# Altium integrated library Integrated_Library1.IntLib: 2483 symbols (part 2 of 13)
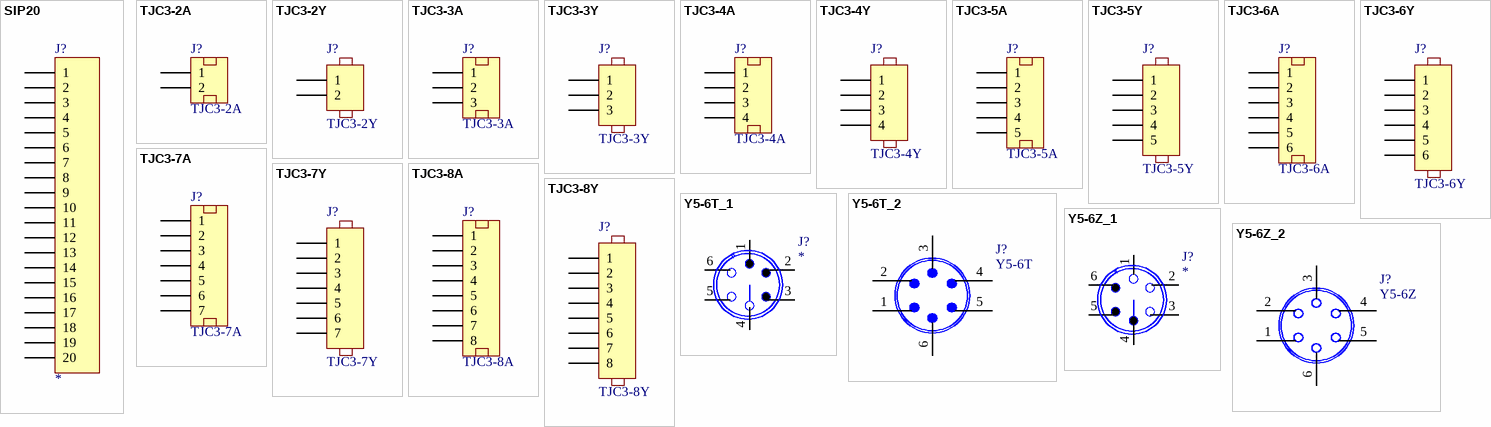
[diagram p109: symbols SIP20 to Y5-6Z_2]

## TJC3-5A
designator J?
Set Position: 0.5; Published: 8-Jun-2000; LatestRevisionDate: 17-Jul-2002; LatestRevisionNote: Re-released for DXP Platform.; PackageReference: AXIAL-0.6; Publisher: Altium Limited
simulation model VRES (Variable Resistor)
signal-integrity model Res Adj
footprint TJC3-5A
pins: 1, 2, 3, 4, 5

## TJC3-5Y
designator J?
Set Position: 0.5; Published: 8-Jun-2000; LatestRevisionDate: 17-Jul-2002; LatestRevisionNote: Re-released for DXP Platform.; PackageReference: AXIAL-0.6; Publisher: Altium Limited
footprint AXIAL-0.6 (Variable Resistor; 2 Leads)
simulation model VRES (Variable Resistor)
signal-integrity model Res Adj
pins: 1, 2, 3, 4, 5

## TJC3-6A
designator J?
Set Position: 0.5; Published: 8-Jun-2000; LatestRevisionDate: 17-Jul-2002; LatestRevisionNote: Re-released for DXP Platform.; PackageReference: AXIAL-0.6; Publisher: Altium Limited
simulation model VRES (Variable Resistor)
signal-integrity model Res Adj
footprint TJC3-6A
pins: 1, 2, 3, 4, 5, 6

## TJC3-6Y
designator J?
Set Position: 0.5; Published: 8-Jun-2000; LatestRevisionDate: 17-Jul-2002; LatestRevisionNote: Re-released for DXP Platform.; PackageReference: AXIAL-0.6; Publisher: Altium Limited
footprint AXIAL-0.6 (Variable Resistor; 2 Leads)
simulation model VRES (Variable Resistor)
signal-integrity model Res Adj
pins: 1, 2, 3, 4, 5, 6

## TJC3-7A
designator J?
Set Position: 0.5; Published: 8-Jun-2000; LatestRevisionDate: 17-Jul-2002; LatestRevisionNote: Re-released for DXP Platform.; PackageReference: AXIAL-0.6; Publisher: Altium Limited
simulation model VRES (Variable Resistor)
signal-integrity model Res Adj
footprint TJC3-7A
pins: 1, 2, 3, 4, 5, 6, 7

## TJC3-7Y
designator J?
Set Position: 0.5; Published: 8-Jun-2000; LatestRevisionDate: 17-Jul-2002; LatestRevisionNote: Re-released for DXP Platform.; PackageReference: AXIAL-0.6; Publisher: Altium Limited
footprint AXIAL-0.6 (Variable Resistor; 2 Leads)
simulation model VRES (Variable Resistor)
signal-integrity model Res Adj
pins: 1, 2, 3, 4, 5, 6, 7

## TJC3-8A
designator J?
Set Position: 0.5; Published: 8-Jun-2000; LatestRevisionDate: 17-Jul-2002; LatestRevisionNote: Re-released for DXP Platform.; PackageReference: AXIAL-0.6; Publisher: Altium Limited
footprint AXIAL-0.6 (Variable Resistor; 2 Leads)
simulation model VRES (Variable Resistor)
signal-integrity model Res Adj
pins: 1, 2, 3, 4, 5, 6, 7, 8

## TJC3-8Y
designator J?
Set Position: 0.5; Published: 8-Jun-2000; LatestRevisionDate: 17-Jul-2002; LatestRevisionNote: Re-released for DXP Platform.; PackageReference: AXIAL-0.6; Publisher: Altium Limited
footprint AXIAL-0.6 (Variable Resistor; 2 Leads)
simulation model VRES (Variable Resistor)
signal-integrity model Res Adj
pins: 1, 2, 3, 4, 5, 6, 7, 8

## Y5-6T_1
designator J?
jointbar
pins: 1, 2, 3, 4, 5, 6

## Y5-6T_2
designator J?, comment Y5-6T
Set Position: 0.5; Published: 8-Jun-2000; LatestRevisionDate: 17-Jul-2002; LatestRevisionNote: Re-released for DXP Platform.; PackageReference: AXIAL-0.6; Publisher: Altium Limited
footprint AXIAL-0.6 (Variable Resistor; 2 Leads)
simulation model VRES (Variable Resistor)
signal-integrity model Res Adj
pins: 1, 2, 3, 4, 5, 6

## Y5-6Z_1
designator J?
jointbar
pins: 1, 2, 3, 4, 5, 6

## Y5-6Z_2
designator J?, comment Y5-6Z
Set Position: 0.5; Published: 8-Jun-2000; LatestRevisionDate: 17-Jul-2002; LatestRevisionNote: Re-released for DXP Platform.; PackageReference: AXIAL-0.6; Publisher: Altium Limited
footprint AXIAL-0.6 (Variable Resistor; 2 Leads)
simulation model VRES (Variable Resistor)
signal-integrity model Res Adj
pins: 1, 2, 3, 4, 5, 6


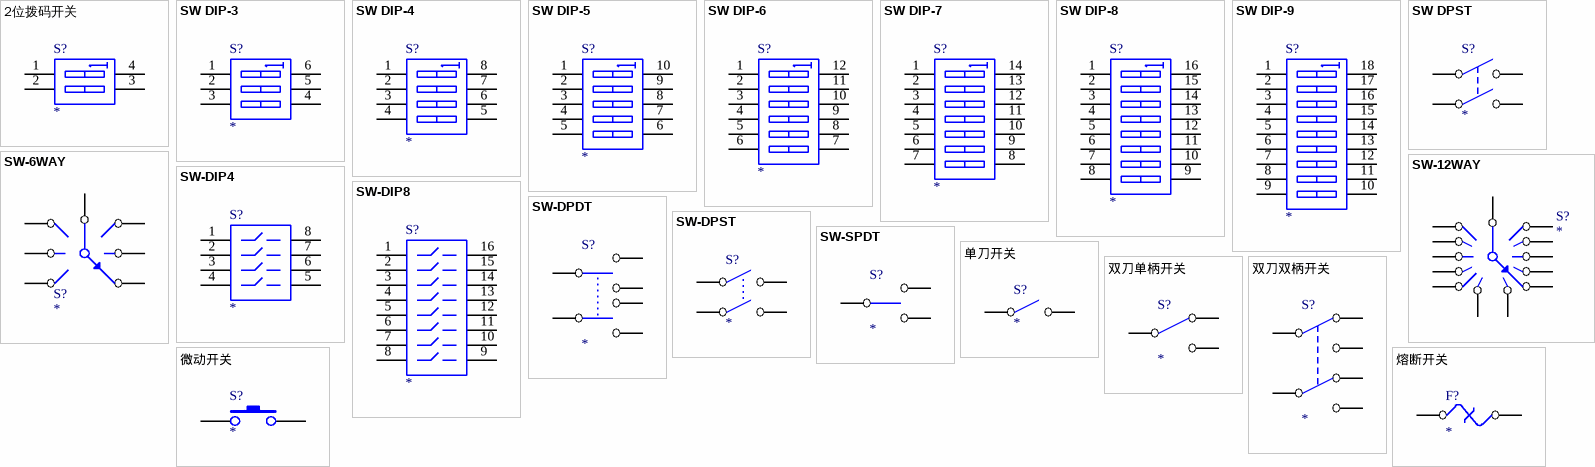
[diagram p16: symbols 2位拨码开关 to 熔断开关]

## 2位拨码开关
designator S?
DIP Switch
pins: 1 A1, 2 A2, 3 B2, 4 B1

## SW DIP-3
designator S?
DIP Switch
pins: 1 A1, 2 A2, 3 A3, 4 B3, 5 B2, 6 B1

## SW DIP-4
designator S?
DIP Switch
pins: 1 A1, 2 A2, 3 A3, 4 A4, 5 B4, 6 B3, 7 B2, 8 B1

## SW DIP-5
designator S?
DIP Switch
pins: 1 A1, 2 A2, 3 A3, 4 A4, 5 A5, 6 B5, 7 B4, 8 B3, 9 B2, 10 B1

## SW DIP-6
designator S?
DIP Switch
pins: 1 A1, 2 A2, 3 A3, 4 A4, 5 A5, 6 A6, 7 B6, 8 B5, 9 B4, 10 B3, 11 B2, 12 B1

## SW DIP-7
designator S?
DIP Switch
pins: 1 A1, 2 A2, 3 A3, 4 A4, 5 A5, 6 A6, 7 A7, 8 B7, 9 B6, 10 B5, 11 B4, 12 B3, 13 B2, 14 B1

## SW DIP-8
designator S?
DIP Switch
pins: 1 A1, 2 A2, 3 A3, 4 A4, 5 A5, 6 A6, 7 A7, 8 A8, 9 B8, 10 B7, 11 B6, 12 B5, 13 B4, 14 B3, 15 B2, 16 B1

## SW DIP-9
designator S?
DIP Switch
pins: 1 A1, 2 A2, 3 A3, 4 A4, 5 A5, 6 A6, 7 A7, 8 A8, 9 A9, 10 B9, 11 B8, 12 B7, 13 B6, 14 B5, 15 B4, 16 B3, 17 B2, 18 B1

## SW DPST
designator S?
pins: 1 COMMON1, 2 NO1, 3 COMMON2, 4 NO2

## SW-6WAY
designator S?
pins: 1, 2, 3, 4, 5, 6, 7

## SW-12WAY
designator S?
pins: 1, 2, 3, 4, 5, 6, 7, 8, 9, 10, 11, 12, 13

## SW-DIP4
designator S?
footprint DIP-8
pins: 1, 2, 3, 4, 5, 6, 7, 8

## SW-DIP8
designator S?
footprint DIP-16
pins: 1, 2, 3, 4, 5, 6, 7, 8, 9, 10, 11, 12, 13, 14, 15, 16

## SW-DPDT
designator S?
pins: 1, 2, 3, 4, 5, 6

## SW-DPST
designator S?
pins: 1, 2, 3, 4

## SW-SPDT
designator S?
pins: 1, 2, 3

## 单刀开关
designator S?
pins: 1, 2

## 双刀单柄开关
designator S?
pins: 1 COMMON, 2 NC, 3 NO

## 双刀双柄开关
designator S?
pins: 1 COMMON1, 2 NC1, 3 NO1, 4 NC2, 5 COMMON2, 6 NO2

## 微动开关
designator S?
pins: 1, 2

## 熔断开关
designator F?
pins: 1, 2


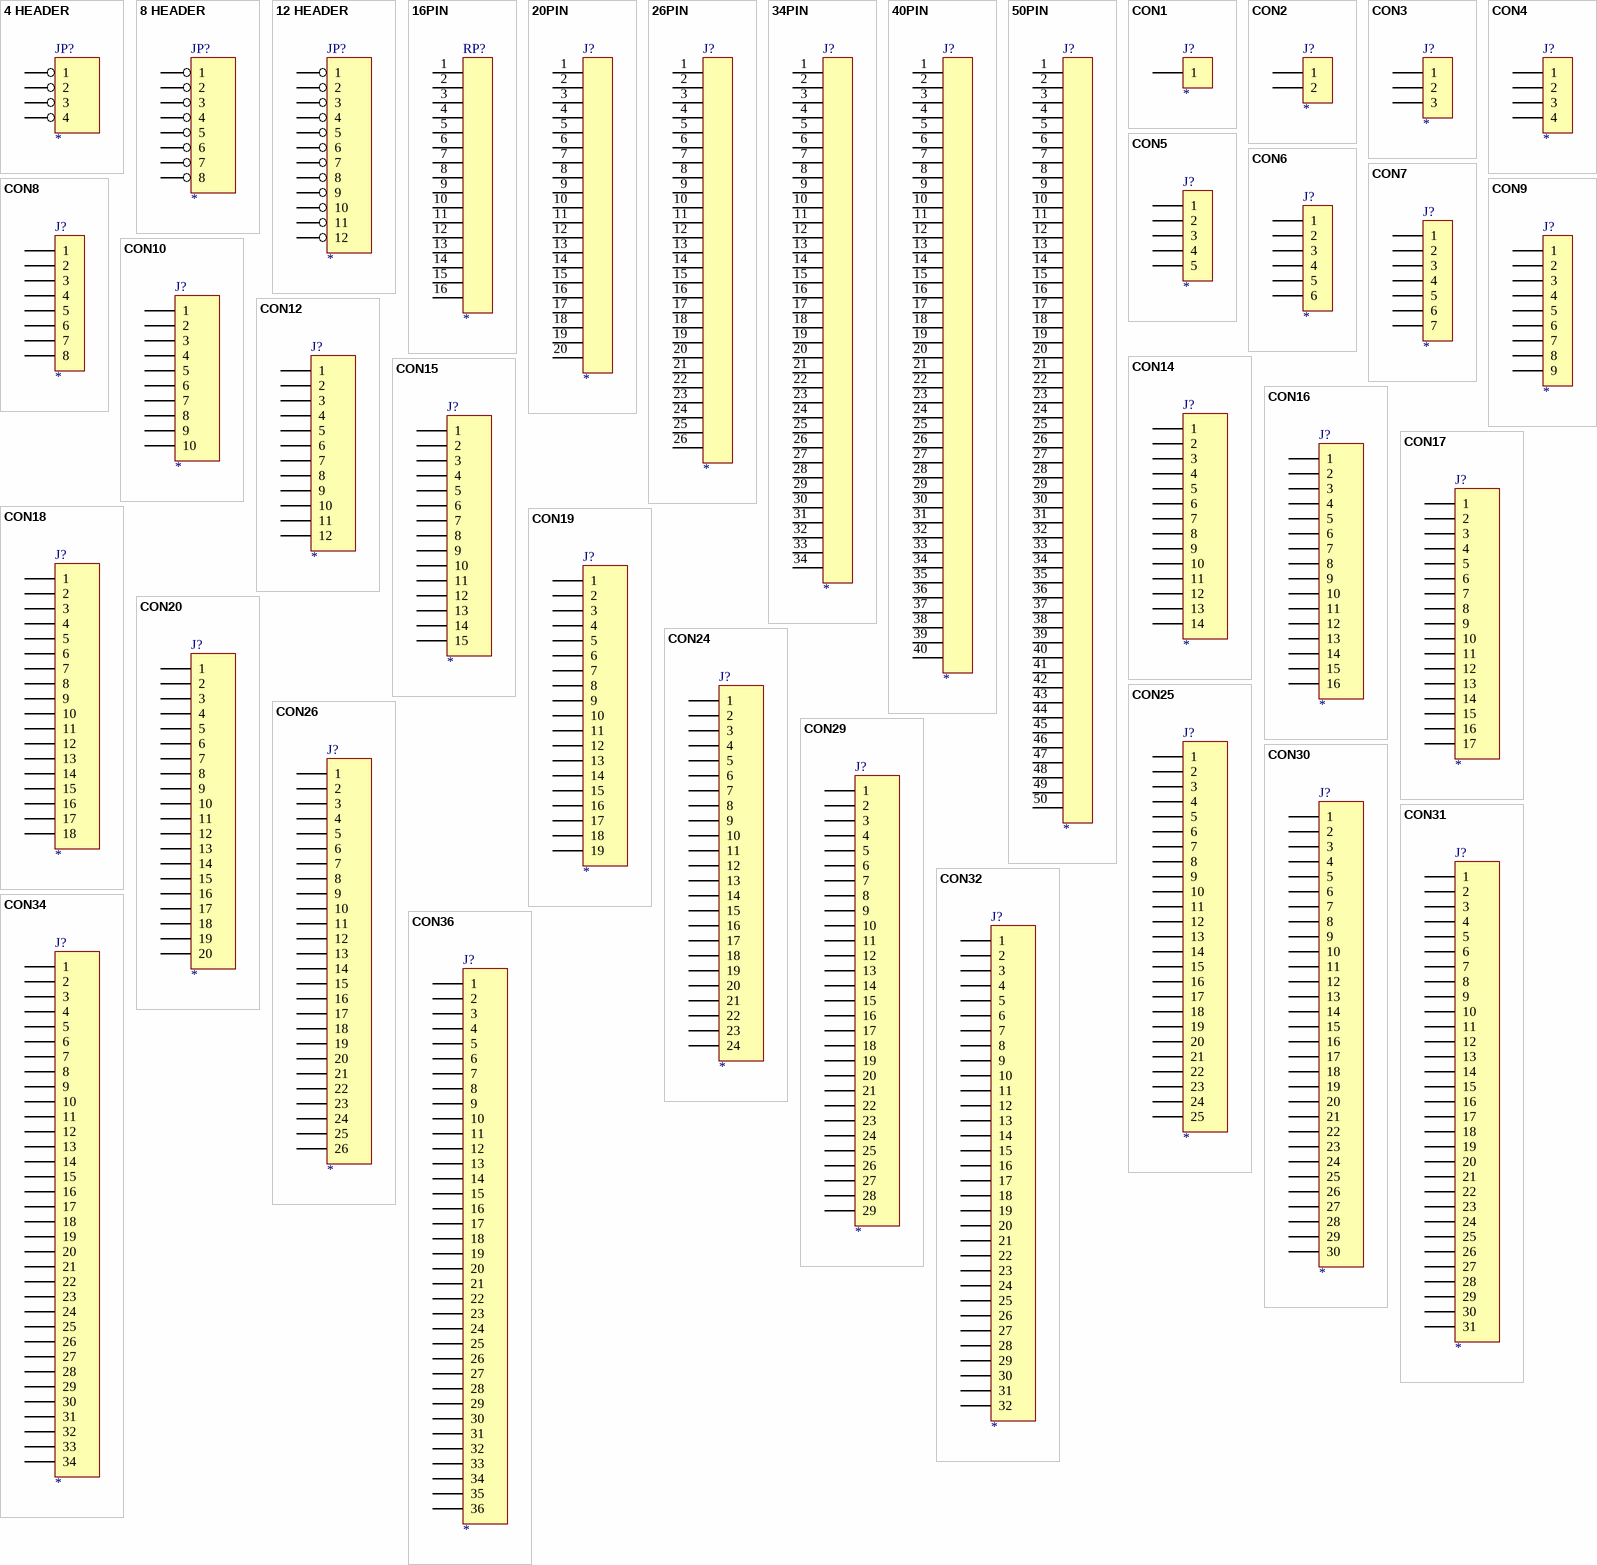
[diagram p17: symbols 4 HEADER to CON36]

## 4 HEADER
designator JP?
4 Pin Header
pins: 1, 2, 3, 4

## 8 HEADER
designator JP?
8 Pin Header
pins: 1, 2, 3, 4, 5, 6, 7, 8

## 12 HEADER
designator JP?
12 Pin Header
pins: 1, 2, 3, 4, 5, 6, 7, 8, 9, 10, 11, 12

## 16PIN
designator RP?
footprint IDC16
pins: 1, 2, 3, 4, 5, 6, 7, 8, 9, 10, 11, 12, 13, 14, 15, 16

## 20PIN
designator J?
footprint IDC20
pins: 1, 2, 3, 4, 5, 6, 7, 8, 9, 10, 11, 12, 13, 14, 15, 16, 17, 18, 19, 20

## 26PIN
designator J?
footprint IDC26
pins: 1, 2, 3, 4, 5, 6, 7, 8, 9, 10, 11, 12, 13, 14, 15, 16, 17, 18, 19, 20, 21, 22, 23, 24, 25, 26

## 34PIN
designator J?
footprint IDC34
pins: 1, 2, 3, 4, 5, 6, 7, 8, 9, 10, 11, 12, 13, 14, 15, 16, 17, 18, 19, 20, 21, 22, 23, 24, 25, 26, 27, 28, 29, 30, 31, 32, 33, 34

## 40PIN
designator J?
footprint IDC40
pins: 1, 2, 3, 4, 5, 6, 7, 8, 9, 10, 11, 12, 13, 14, 15, 16, 17, 18, 19, 20, 21, 22, 23, 24, 25, 26, 27, 28, 29, 30, 31, 32, 33, 34, 35, 36, 37, 38, 39, 40

## 50PIN
designator J?
footprint IDC50
pins: 1, 2, 3, 4, 5, 6, 7, 8, 9, 10, 11, 12, 13, 14, 15, 16, 17, 18, 19, 20, 21, 22, 23, 24, 25, 26, 27, 28, 29, 30, 31, 32, 33, 34, 35, 36, 37, 38, 39, 40, 41, 42, 43, 44, 45, 46, 47, 48, 49, 50

## CON1
designator J?
Connector
pins: 1

## CON2
designator J?
Connector
pins: 1, 2

## CON3
designator J?
Connector
pins: 1, 2, 3

## CON4
designator J?
Connector
pins: 1, 2, 3, 4

## CON5
designator J?
Connector
pins: 1, 2, 3, 4, 5

## CON6
designator J?
Connector
footprint DG1286
pins: 1, 2, 3, 4, 5, 6

## CON7
designator J?
Connector
pins: 1, 2, 3, 4, 5, 6, 7

## CON8
designator J?
Connector
pins: 1, 2, 3, 4, 5, 6, 7, 8

## CON9
designator J?
Connector
pins: 1, 2, 3, 4, 5, 6, 7, 8, 9

## CON10
designator J?
Connector
pins: 1, 2, 3, 4, 5, 6, 7, 8, 9, 10

## CON12
designator J?
Connector
pins: 1, 2, 3, 4, 5, 6, 7, 8, 9, 10, 11, 12

## CON14
designator J?
Connector
pins: 1, 2, 3, 4, 5, 6, 7, 8, 9, 10, 11, 12, 13, 14

## CON15
designator J?
Connector
pins: 1, 2, 3, 4, 5, 6, 7, 8, 9, 10, 11, 12, 13, 14, 15

## CON16
designator J?
Connector
pins: 1, 2, 3, 4, 5, 6, 7, 8, 9, 10, 11, 12, 13, 14, 15, 16

## CON17
designator J?
Connector
pins: 1, 2, 3, 4, 5, 6, 7, 8, 9, 10, 11, 12, 13, 14, 15, 16, 17

## CON18
designator J?
Connector
pins: 1, 2, 3, 4, 5, 6, 7, 8, 9, 10, 11, 12, 13, 14, 15, 16, 17, 18

## CON19
designator J?
Connector
pins: 1, 2, 3, 4, 5, 6, 7, 8, 9, 10, 11, 12, 13, 14, 15, 16, 17, 18, 19

## CON20
designator J?
Connector
pins: 1, 2, 3, 4, 5, 6, 7, 8, 9, 10, 11, 12, 13, 14, 15, 16, 17, 18, 19, 20

## CON24
designator J?
Connector
pins: 1, 2, 3, 4, 5, 6, 7, 8, 9, 10, 11, 12, 13, 14, 15, 16, 17, 18, 19, 20, 21, 22, 23, 24

## CON25
designator J?
Connector
pins: 1, 2, 3, 4, 5, 6, 7, 8, 9, 10, 11, 12, 13, 14, 15, 16, 17, 18, 19, 20, 21, 22, 23, 24, 25

## CON26
designator J?
Connector
pins: 1, 2, 3, 4, 5, 6, 7, 8, 9, 10, 11, 12, 13, 14, 15, 16, 17, 18, 19, 20, 21, 22, 23, 24, 25, 26

## CON29
designator J?
Connector
pins: 1, 2, 3, 4, 5, 6, 7, 8, 9, 10, 11, 12, 13, 14, 15, 16, 17, 18, 19, 20, 21, 22, 23, 24, 25, 26, 27, 28, 29

## CON30
designator J?
Connector
pins: 1, 2, 3, 4, 5, 6, 7, 8, 9, 10, 11, 12, 13, 14, 15, 16, 17, 18, 19, 20, 21, 22, 23, 24, 25, 26, 27, 28, 29, 30

## CON31
designator J?
Connector
pins: 1, 2, 3, 4, 5, 6, 7, 8, 9, 10, 11, 12, 13, 14, 15, 16, 17, 18, 19, 20, 21, 22, 23, 24, 25, 26, 27, 28, 29, 30, 31

## CON32
designator J?
Connector
pins: 1, 2, 3, 4, 5, 6, 7, 8, 9, 10, 11, 12, 13, 14, 15, 16, 17, 18, 19, 20, 21, 22, 23, 24, 25, 26, 27, 28, 29, 30, 31, 32

## CON34
designator J?
Connector
pins: 1, 2, 3, 4, 5, 6, 7, 8, 9, 10, 11, 12, 13, 14, 15, 16, 17, 18, 19, 20, 21, 22, 23, 24, 25, 26, 27, 28, 29, 30, 31, 32, 33, 34

## CON36
designator J?
Connector
pins: 1, 2, 3, 4, 5, 6, 7, 8, 9, 10, 11, 12, 13, 14, 15, 16, 17, 18, 19, 20, 21, 22, 23, 24, 25, 26, 27, 28, 29, 30, 31, 32, 33, 34, 35, 36

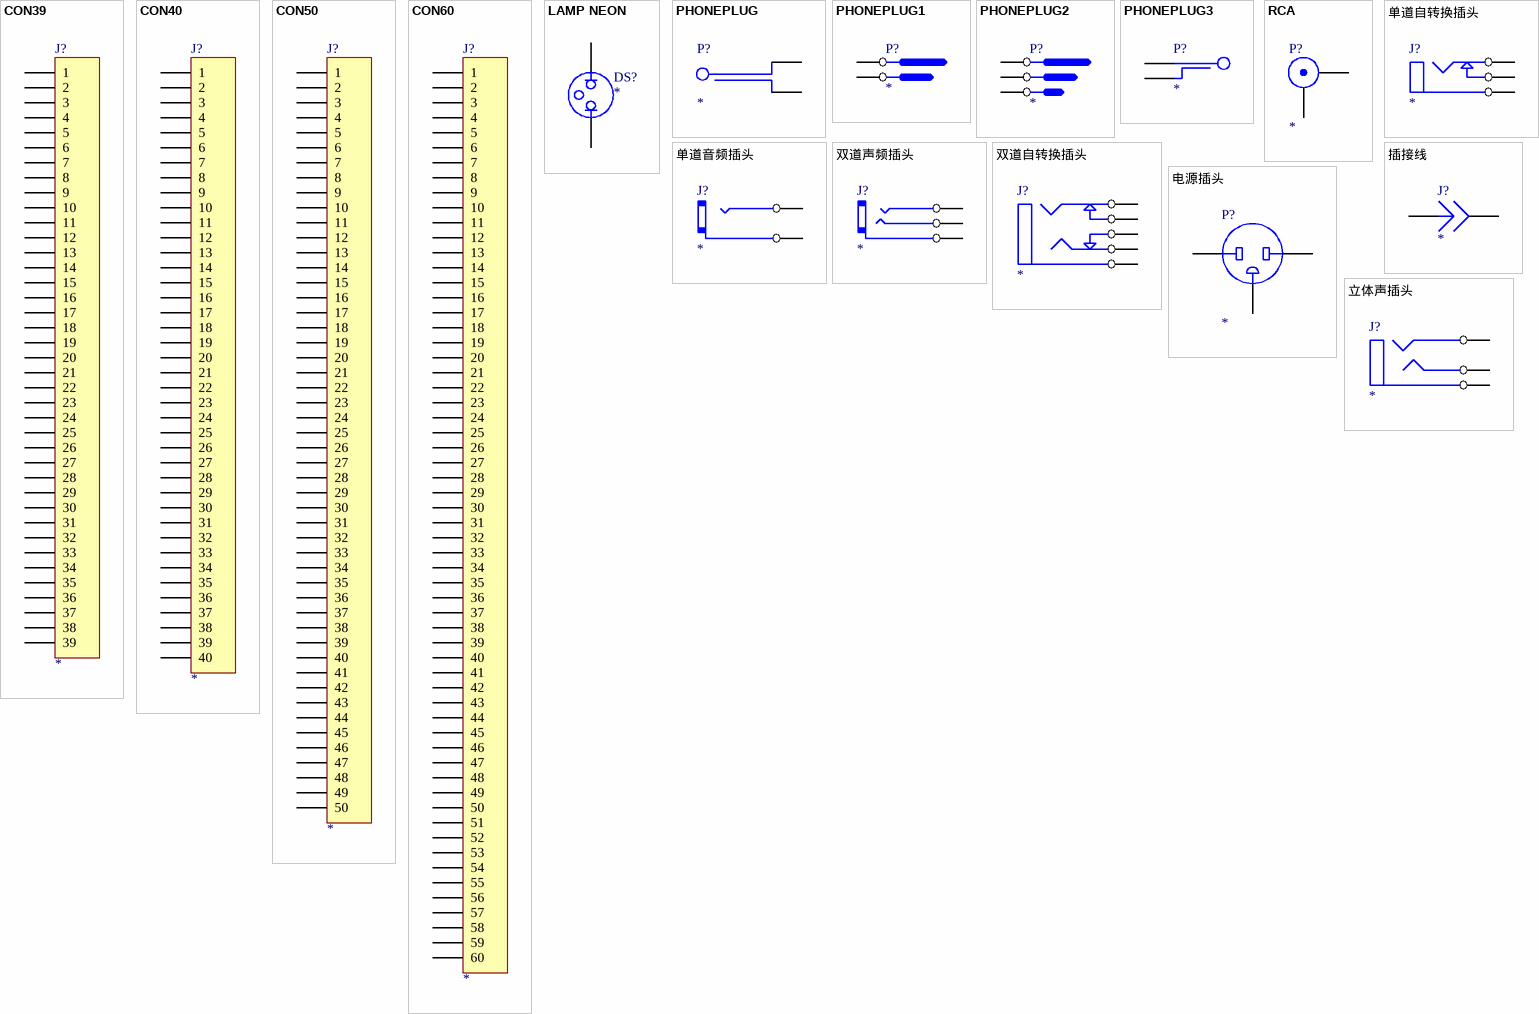
[diagram p18: symbols CON39 to 立体声插头]

## CON39
designator J?
Connector
pins: 1, 2, 3, 4, 5, 6, 7, 8, 9, 10, 11, 12, 13, 14, 15, 16, 17, 18, 19, 20, 21, 22, 23, 24, 25, 26, 27, 28, 29, 30, 31, 32, 33, 34, 35, 36, 37, 38, 39

## CON40
designator J?
Connector
pins: 1, 2, 3, 4, 5, 6, 7, 8, 9, 10, 11, 12, 13, 14, 15, 16, 17, 18, 19, 20, 21, 22, 23, 24, 25, 26, 27, 28, 29, 30, 31, 32, 33, 34, 35, 36, 37, 38, 39, 40

## CON50
designator J?
Connector
pins: 1, 2, 3, 4, 5, 6, 7, 8, 9, 10, 11, 12, 13, 14, 15, 16, 17, 18, 19, 20, 21, 22, 23, 24, 25, 26, 27, 28, 29, 30, 31, 32, 33, 34, 35, 36, 37, 38, 39, 40, 41, 42, 43, 44, 45, 46, 47, 48, 49, 50

## CON60
designator J?
Connector
pins: 1, 2, 3, 4, 5, 6, 7, 8, 9, 10, 11, 12, 13, 14, 15, 16, 17, 18, 19, 20, 21, 22, 23, 24, 25, 26, 27, 28, 29, 30, 31, 32, 33, 34, 35, 36, 37, 38, 39, 40, 41, 42, 43, 44, 45, 46, 47, 48, 49, 50, 51, 52, 53, 54, 55, 56, 57, 58, 59, 60

## LAMP NEON
designator DS?
pins: 1, 2

## PHONEPLUG
designator P?
pins: 1 A, 2 B

## PHONEPLUG1
designator P?
pins: 1 A, 2 B

## PHONEPLUG2
designator P?
pins: 1 A, 2 B, 3 C

## PHONEPLUG3
designator P?
pins: 1 A, 2 B

## RCA
designator P?
RCA Connector
pins: 1 X, 2 Y

## 单道自转换插头
designator J?
pins: 1 A, 2 B, 3 C

## 单道音频插头
designator J?
pins: 1 A, 2 B

## 双道声频插头
designator J?
pins: 1 A, 2 B, 3 C

## 双道自转换插头
designator J?
pins: 1 A, 2 B, 3 C, 4 D, 5 E

## 插接线
designator J?
pins: 1, 2

## 电源插头
designator P?
pins: 1 A, 2 B, 3 GND

## 立体声插头
designator J?
pins: 1 A, 2 B, 3 C


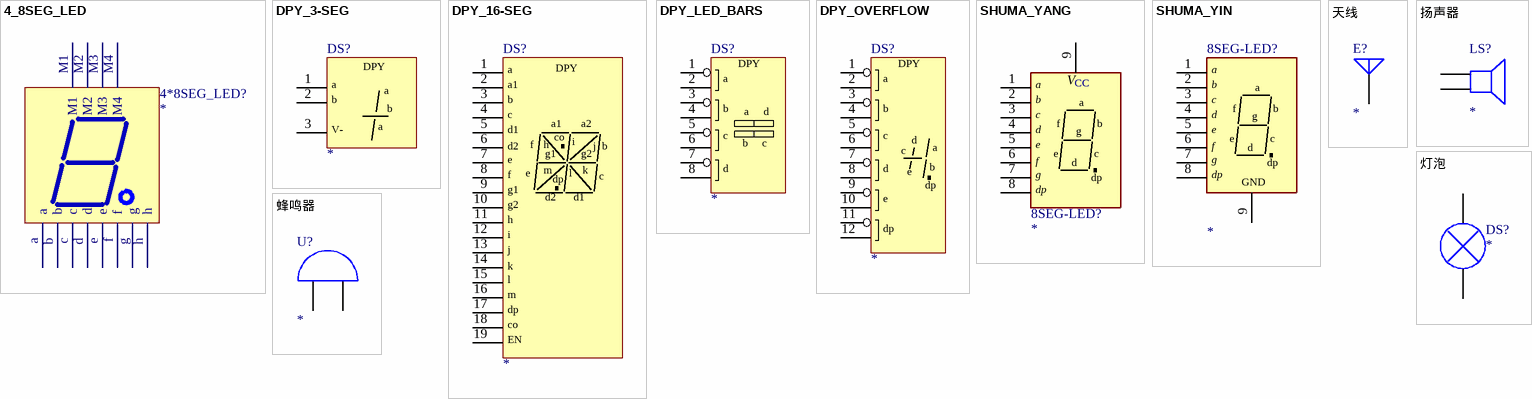
[diagram p19: symbols 4_8SEG_LED to 蜂鸣器]

## 4_8SEG_LED
designator 4*8SEG_LED?
footprint 4-8SLED(B)
footprint 4-8SLED(S)
pins: a, b, c, d, e, f, g, h, M1, M2, M3, M4

## DPY_3-SEG
designator DS?
Three-Segment Display
pins: 1 x, 2 y, 3 z
text: DPY; a; b; V-

## DPY_16-SEG
designator DS?
Sixteen-Segment (Alphanumeric) Display
pins: 1 a1, 2 a1, 3 b, 4 c, 5 d1, 6 d2, 7 e, 8 f, 9 g1, 10 g2, 11 h, 12 i, 13 j, 14 k, 15 l, 16 m, 17 dp, 18 co, 19 EN
text: DPY; a; a2

## DPY_LED_BARS
designator DS?
LED Light Bars
pins: 1 ~{a}, 2 a, 3 ~{b}, 4 b, 5 ~{c}, 6 c, 7 ~{d}, 8 d
text: DPY

## DPY_OVERFLOW
designator DS?
Overflow, Right Hand Decimal
pins: 1 ~{a}, 2 a, 3 ~{b}, 4 b, 5 ~{c}, 6 c, 7 ~{d}, 8 d, 9 ~{e}, 10 e, 11 d~{p}, 12 dp
text: DPY

## SHUMA_YANG
designator 8SEG-LED?
footprint 0.5INCH-DISP
footprint 0.8INCH-DISP
pins: 1 a, 2 b, 3 c, 4 d, 5 e, 6 f, 7 g, 8 dp, 9 VCC
text: V; CC

## SHUMA_YIN
designator 8SEG-LED?
footprint 0.5INCH-DISP
footprint 0.8INCH-DISP
pins: 1 a, 2 b, 3 c, 4 d, 5 e, 6 f, 7 g, 8 dp, 9 GND

## 天线
designator E?
Generic Antenna
pins: 1 A

## 扬声器
designator LS?
pins: 1, 2

## 灯泡
designator DS?
pins: 1, 2

## 蜂鸣器
designator U?
Bell
pins: 1 A, 2 B


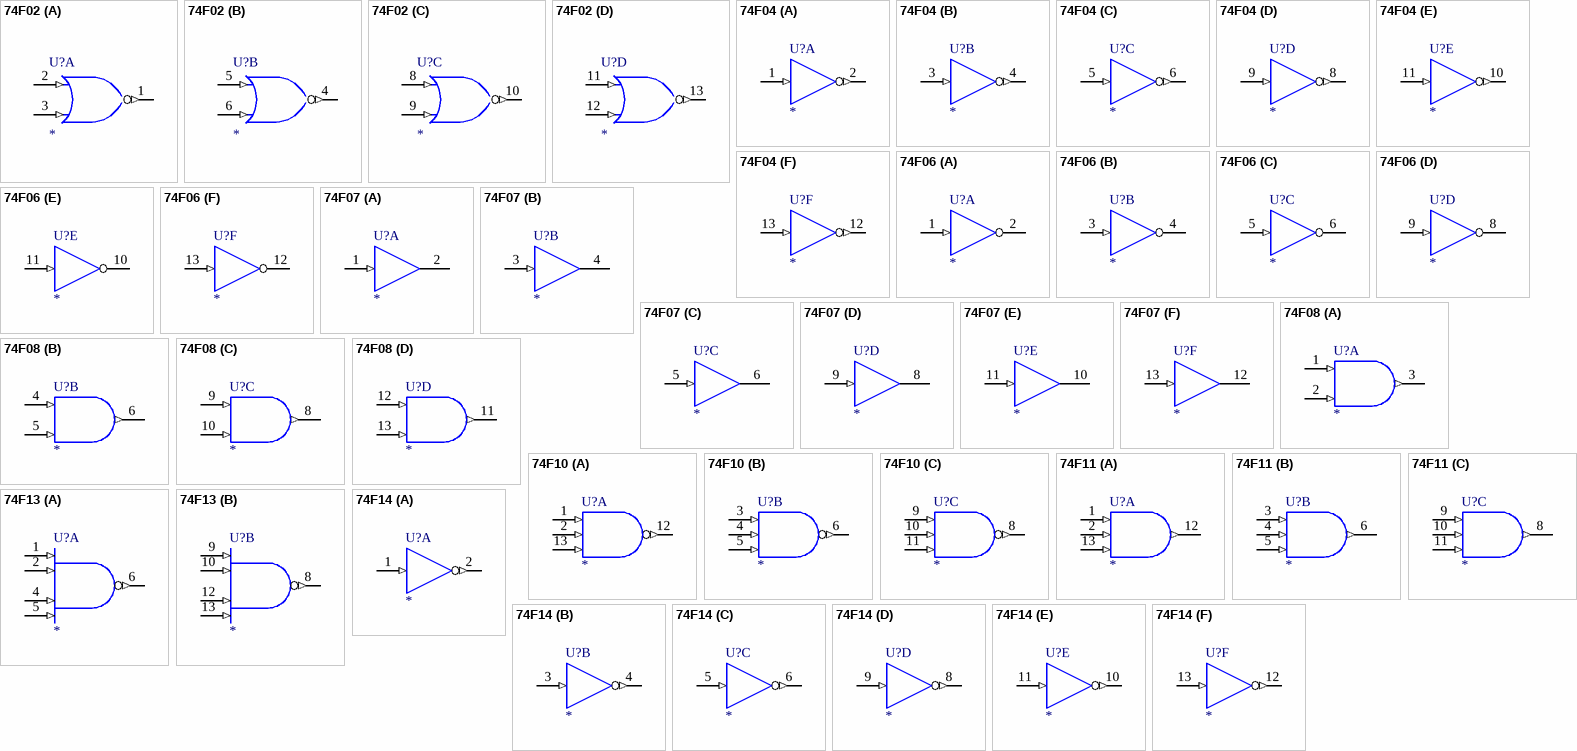
[diagram p20: symbols 74F02 to 74F14]

## 74F02
designator U?
Quad 2-Input NOR Gate
footprint DIP-14
simulation model 74F02 (SIMCODE)
part A pins: 1 Y (out), 2 A (in), 3 B (in), 7 GND (power) hidden to GND, 14 VCC (power) hidden to VCC
part B pins: 4 Y (out), 5 A (in), 6 B (in), 7 GND (power) hidden to GND, 14 VCC (power) hidden to VCC
part C pins: 7 GND (power) hidden to GND, 8 A (in), 9 B (in), 10 Y (out), 14 VCC (power) hidden to VCC
part D pins: 7 GND (power) hidden to GND, 11 A (in), 12 B (in), 13 Y (out), 14 VCC (power) hidden to VCC
1 alternate drawing of the same symbol

## 74F04
designator U?
Hex Inverter
footprint DIP-14
simulation model 74F04 (SIMCODE)
part A pins: 1 A (in), 2 Y (out), 7 GND (power) hidden to GND, 14 VCC (power) hidden to VCC
part B pins: 3 A (in), 4 Y (out), 7 GND (power) hidden to GND, 14 VCC (power) hidden to VCC
part C pins: 5 A (in), 6 Y (out), 7 GND (power) hidden to GND, 14 VCC (power) hidden to VCC
part D pins: 7 GND (power) hidden to GND, 8 Y (out), 9 A (in), 14 VCC (power) hidden to VCC
part E pins: 7 GND (power) hidden to GND, 10 Y (out), 11 A (in), 14 VCC (power) hidden to VCC
part F pins: 7 GND (power) hidden to GND, 12 Y (out), 13 A (in), 14 VCC (power) hidden to VCC
1 alternate drawing of the same symbol

## 74F06
designator U?
Hex Inverter with Open-Collector High-Voltage Output
footprint DIP-14
simulation model 74F06 (SIMCODE)
part A pins: 1 A (in), 2 Y (oc), 7 GND (power) hidden to GND, 14 VCC (power) hidden to VCC
part B pins: 3 A (in), 4 Y (oc), 7 GND (power) hidden to GND, 14 VCC (power) hidden to VCC
part C pins: 5 A (in), 6 Y (oc), 7 GND (power) hidden to GND, 14 VCC (power) hidden to VCC
part D pins: 7 GND (power) hidden to GND, 8 Y (oc), 9 A (in), 14 VCC (power) hidden to VCC
part E pins: 7 GND (power) hidden to GND, 10 Y (oc), 11 A (in), 14 VCC (power) hidden to VCC
part F pins: 7 GND (power) hidden to GND, 12 Y (oc), 13 A (in), 14 VCC (power) hidden to VCC
2 alternate drawings of the same symbol

## 74F07
designator U?
Hex Buffer/Driver with Open-Collector High-Voltage Output
footprint DIP-14
simulation model 74F07 (SIMCODE)
part A pins: 1 A (in), 2 Y (oc), 7 GND (power) hidden to GND, 14 VCC (power) hidden to VCC
part B pins: 3 A (in), 4 Y (oc), 7 GND (power) hidden to GND, 14 VCC (power) hidden to VCC
part C pins: 5 A (in), 6 Y (oc), 7 GND (power) hidden to GND, 14 VCC (power) hidden to VCC
part D pins: 7 GND (power) hidden to GND, 8 Y (oc), 9 A (in), 14 VCC (power) hidden to VCC
part E pins: 7 GND (power) hidden to GND, 10 Y (oc), 11 A (in), 14 VCC (power) hidden to VCC
part F pins: 7 GND (power) hidden to GND, 12 Y (oc), 13 A (in), 14 VCC (power) hidden to VCC
2 alternate drawings of the same symbol

## 74F08
designator U?
Quad 2-Input Positive-AND Gate
footprint DIP-14
simulation model 74F08 (SIMCODE)
part A pins: 1 A (in), 2 B (in), 3 Y (out), 7 GND (power) hidden to GND, 14 VCC (power) hidden to VCC
part B pins: 4 A (in), 5 B (in), 6 Y (out), 7 GND (power) hidden to GND, 14 VCC (power) hidden to VCC
part C pins: 7 GND (power) hidden to GND, 8 Y (out), 9 A (in), 10 B (in), 14 VCC (power) hidden to VCC
part D pins: 7 GND (power) hidden to GND, 11 Y (out), 12 A (in), 13 B (in), 14 VCC (power) hidden to VCC
1 alternate drawing of the same symbol

## 74F10
designator U?
Triple 3-Input Positive-NAND Gate
footprint DIP-14
simulation model 74F10 (SIMCODE)
part A pins: 1 A (in), 2 B (in), 7 GND (power) hidden to GND, 12 Y (out), 13 C (in), 14 VCC (power) hidden to VCC
part B pins: 3 A (in), 4 B (in), 5 C (in), 6 Y (out), 7 GND (power) hidden to GND, 14 VCC (power) hidden to VCC
part C pins: 7 GND (power) hidden to GND, 8 Y (out), 9 A (in), 10 B (in), 11 C (in), 14 VCC (power) hidden to VCC
1 alternate drawing of the same symbol

## 74F11
designator U?
Triple 3-Input Positive-AND Gate
footprint DIP-14
simulation model 74F11 (SIMCODE)
part A pins: 1 A (in), 2 B (in), 7 GND (power) hidden to GND, 12 Y (out), 13 C (in), 14 VCC (power) hidden to VCC
part B pins: 3 A (in), 4 B (in), 5 C (in), 6 Y (out), 7 GND (power) hidden to GND, 14 VCC (power) hidden to VCC
part C pins: 7 GND (power) hidden to GND, 8 Y (out), 9 A (in), 10 B (in), 11 C (in), 14 VCC (power) hidden to VCC
1 alternate drawing of the same symbol

## 74F13
designator U?
Dual 4-Input Positive-NAND Schmitt-Trigger
footprint DIP-14
simulation model 74F13 (SIMCODE)
part A pins: 1 A (in), 2 B (in), 4 C (in), 5 D (in), 6 Y (out), 7 GND (power) hidden to GND, 14 VCC (power) hidden to VCC
part B pins: 7 GND (power) hidden to GND, 8 Y (out), 9 A (in), 10 B (in), 12 C (in), 13 D (in), 14 VCC (power) hidden to VCC
1 alternate drawing of the same symbol

## 74F14
designator U?
Hex Schmitt-Trigger Inverter
footprint DIP-14
simulation model 74F14 (SIMCODE)
part A pins: 1 A (in), 2 Y (out), 7 GND (power) hidden to GND, 14 VCC (power) hidden to VCC
part B pins: 3 A (in), 4 Y (out), 7 GND (power) hidden to GND, 14 VCC (power) hidden to VCC
part C pins: 5 A (in), 6 Y (out), 7 GND (power) hidden to GND, 14 VCC (power) hidden to VCC
part D pins: 7 GND (power) hidden to GND, 8 Y (out), 9 A (in), 14 VCC (power) hidden to VCC
part E pins: 7 GND (power) hidden to GND, 10 Y (out), 11 A (in), 14 VCC (power) hidden to VCC
part F pins: 7 GND (power) hidden to GND, 12 Y (out), 13 A (in), 14 VCC (power) hidden to VCC
1 alternate drawing of the same symbol

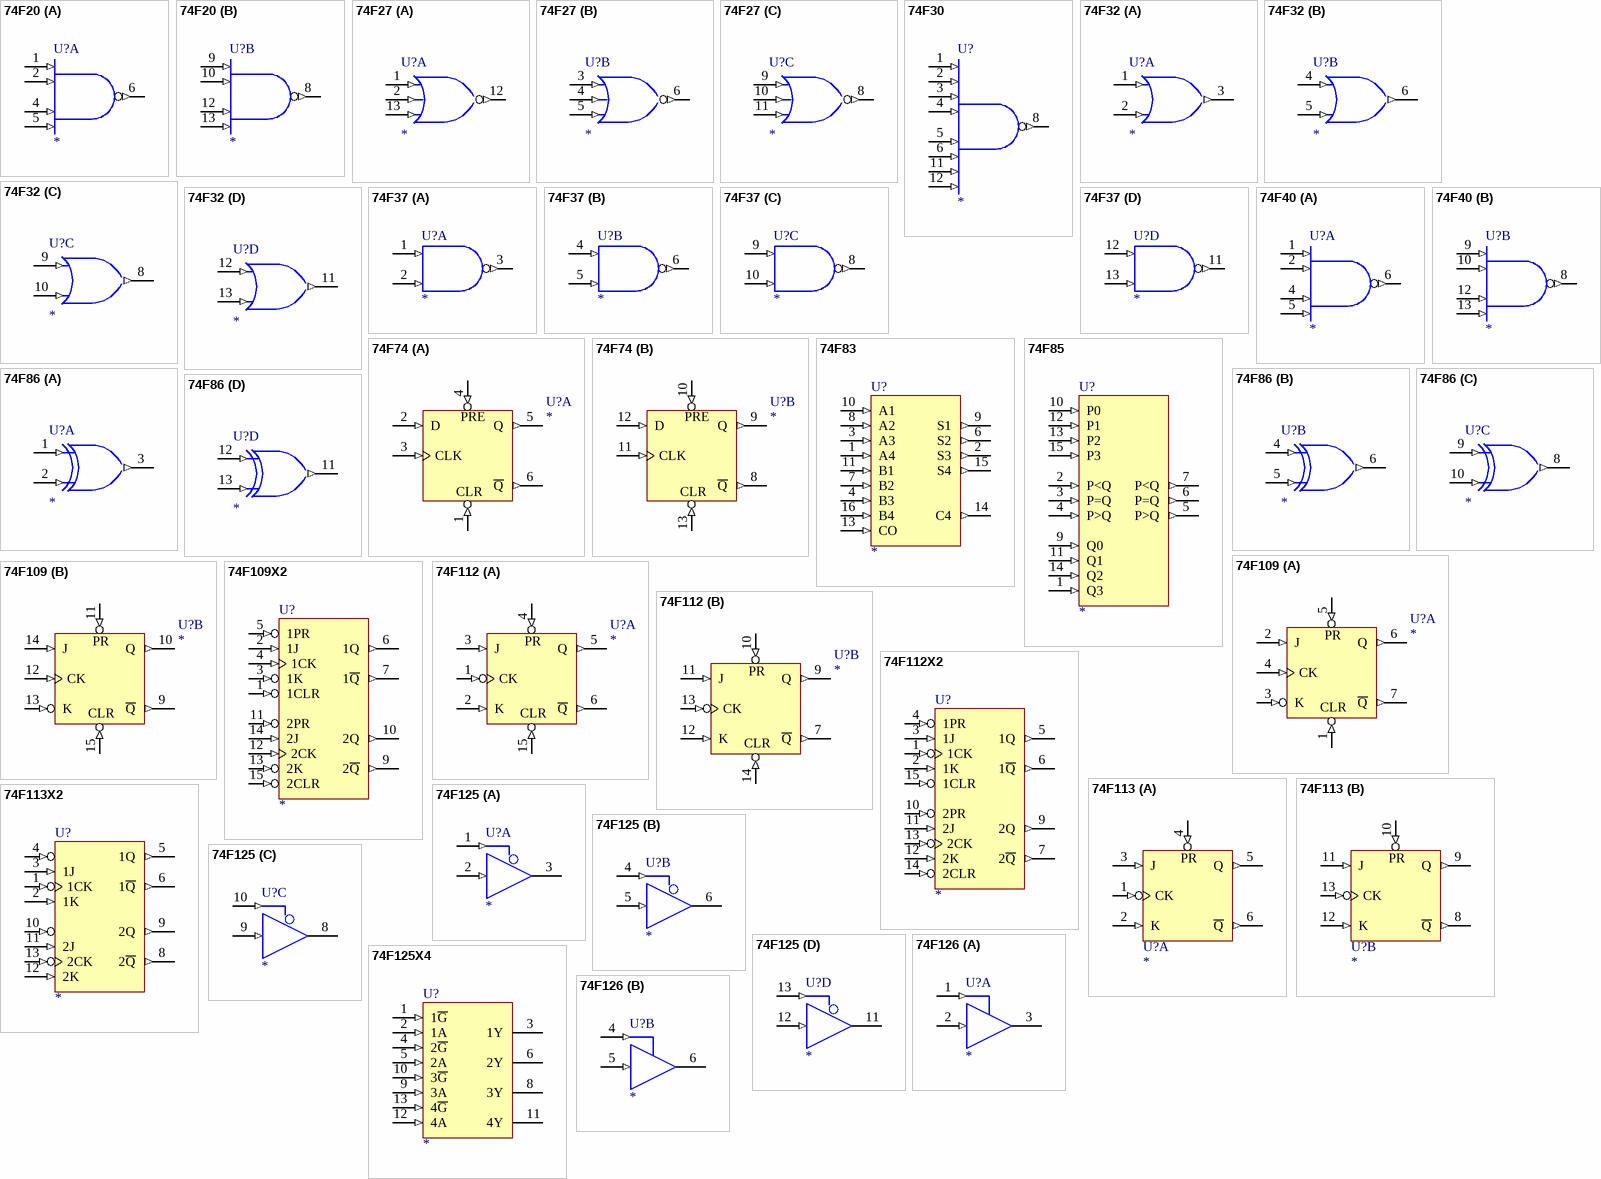
[diagram p21: symbols 74F20 to 74F126]

## 74F20
designator U?
Dual 4-Input Positive-NAND Gate
footprint DIP-14
simulation model 74F20 (SIMCODE)
part A pins: 1 A (in), 2 B (in), 4 C (in), 5 D (in), 6 Y (out), 7 GND (power) hidden to GND, 14 VCC (power) hidden to VCC
part B pins: 7 GND (power) hidden to GND, 8 Y (out), 9 A (in), 10 B (in), 12 C (in), 13 D (in), 14 VCC (power) hidden to VCC
2 alternate drawings of the same symbol

## 74F27
designator U?
Triple 3-Input Positive-NOR Gate
footprint DIP-14
simulation model 74F27 (SIMCODE)
part A pins: 1 A (in), 2 B (in), 7 GND (power) hidden to GND, 12 Y (out), 13 C (in), 14 VCC (power) hidden to VCC
part B pins: 3 A (in), 4 B (in), 5 C (in), 6 Y (out), 7 GND (power) hidden to GND, 14 VCC (power) hidden to VCC
part C pins: 7 GND (power) hidden to GND, 8 Y (out), 9 A (in), 10 B (in), 11 C (in), 14 VCC (power) hidden to VCC
1 alternate drawing of the same symbol

## 74F30
designator U?
8-Input Positive-NAND Gate
footprint DIP-14
simulation model 74F30 (SIMCODE)
pins: 1 A (in), 2 B (in), 3 C (in), 4 D (in), 5 E (in), 6 F (in), 7 GND (power) hidden to GND, 8 Y (out), 11 G (in), 12 H (in), 14 VCC (power) hidden to VCC
1 alternate drawing of the same symbol

## 74F32
designator U?
Quad 2-Input Positive-OR Gate
footprint DIP-14
simulation model 74F32 (SIMCODE)
part A pins: 1 A (in), 2 B (in), 3 Y (out), 7 GND (power) hidden to GND, 14 VCC (power) hidden to VCC
part B pins: 4 A (in), 5 B (in), 6 Y (out), 7 GND (power) hidden to GND, 14 VCC (power) hidden to VCC
part C pins: 7 GND (power) hidden to GND, 8 Y (out), 9 A (in), 10 B (in), 14 VCC (power) hidden to VCC
part D pins: 7 GND (power) hidden to GND, 11 Y (out), 12 A (in), 13 B (in), 14 VCC (power) hidden to VCC
1 alternate drawing of the same symbol

## 74F37
designator U?
Quad 2-Input Positive-NAND Buffer
footprint DIP-14
simulation model 74F37 (SIMCODE)
part A pins: 1 A (in), 2 B (in), 3 Y (out), 7 GND (power) hidden to GND, 14 VCC (power) hidden to VCC
part B pins: 4 A (in), 5 B (in), 6 Y (out), 7 GND (power) hidden to GND, 14 VCC (power) hidden to VCC
part C pins: 7 GND (power) hidden to GND, 8 Y (out), 9 A (in), 10 B (in), 14 VCC (power) hidden to VCC
part D pins: 7 GND (power) hidden to GND, 11 Y (out), 12 A (in), 13 B (in), 14 VCC (power) hidden to VCC
1 alternate drawing of the same symbol

## 74F40
designator U?
Dual 4-Input Positive-NAND Buffer
footprint DIP-14
simulation model 74F40 (SIMCODE)
part A pins: 1 A (in), 2 B (in), 4 C (in), 5 D (in), 6 Y (out), 7 GND (power) hidden to GND, 14 VCC (power) hidden to VCC
part B pins: 7 GND (power) hidden to GND, 8 Y (out), 9 A (in), 10 B (in), 12 C (in), 13 D (in), 14 VCC (power) hidden to VCC
2 alternate drawings of the same symbol

## 74F74
designator U?
Dual D-Type Positive-Edge-Triggered Flip-Flop with Clear and Preset
footprint DIP-14
simulation model 74F74 (SIMCODE)
part A pins: 1 ~{CLR} (in), 2 D (in), 3 CLK (in), 4 ~{PRE} (in), 5 Q (out), 6 ~{Q} (out), 7 GND (power) hidden to GND, 14 VCC (power) hidden to VCC
part B pins: 7 GND (power) hidden to GND, 8 ~{Q} (out), 9 Q (out), 10 ~{PRE} (in), 11 CLK (in), 12 D (in), 13 ~{CLR} (in), 14 VCC (power) hidden to VCC
1 alternate drawing of the same symbol
part A text: PRE; CLR
part B text: PRE; CLR

## 74F83
designator U?
4-Bit Binary Full Adder with Fast Carry
footprint DIP-16
simulation model 74F83 (SIMCODE)
pins: 1 A4 (in), 2 S3 (out), 3 A3 (in), 4 B3 (in), 5 VCC (power) hidden to VCC, 6 S2 (out), 7 B2 (in), 8 A2 (in), 9 S1 (out), 10 A1 (in), 11 B1 (in), 12 GND (power) hidden to GND, 13 CO (in), 14 C4 (out), 15 S4 (out), 16 B4 (in)
1 alternate drawing of the same symbol

## 74F85
designator U?
4-Bit Magnitude Comparator
footprint DIP-16
simulation model 74F85 (SIMCODE)
pins: 1 Q3 (in), 2 P<Q (in), 3 P=Q (in), 4 P>Q (in), 5 P>Q (out), 6 P=Q (out), 7 P<Q (out), 8 GND (power) hidden to GND, 9 Q0 (in), 10 P0 (in), 11 Q1 (in), 12 P1 (in), 13 P2 (in), 14 Q2 (in), 15 P3 (in), 16 VCC (power) hidden to VCC
1 alternate drawing of the same symbol

## 74F86
designator U?
Quad Exclusive-OR Gate
footprint DIP-14
simulation model 74F86 (SIMCODE)
part A pins: 1 A (in), 2 B (in), 3 Y (out), 7 GND (power) hidden to GND, 14 VCC (power) hidden to VCC
part B pins: 4 A (in), 5 B (in), 6 Y (out), 7 GND (power) hidden to GND, 14 VCC (power) hidden to VCC
part C pins: 7 GND (power) hidden to GND, 8 Y (out), 9 A (in), 10 B (in), 14 VCC (power) hidden to VCC
part D pins: 7 GND (power) hidden to GND, 11 Y (out), 12 A (in), 13 B (in), 14 VCC (power) hidden to VCC
1 alternate drawing of the same symbol

## 74F109
designator U?
Dual J-~K Positive-Edge-Triggered Flip Flop with Preset and Clear
footprint DIP-16
simulation model 74F109 (SIMCODE)
part A pins: 1 CLR (in), 2 J (in), 3 K (in), 4 CK (in), 5 PR (in), 6 Q (out), 7 ~{Q} (out), 8 GND (power) hidden to GND, 16 VCC (power) hidden to VCC
part B pins: 8 GND (power) hidden to GND, 9 ~{Q} (out), 10 Q (out), 11 PR (in), 12 CK (in), 13 K (in), 14 J (in), 15 CLR (in), 16 VCC (power) hidden to VCC
1 alternate drawing of the same symbol

## 74F109X2
designator U?
Dual J-~K Positive-Edge-Triggered Flip Flop with Preset and Clear
footprint DIP-16
simulation model 74F109X2 (SIMCODE)
pins: 1 1CLR (in), 2 1J (in), 3 1K (in), 4 1CK (in), 5 1PR (in), 6 1Q (out), 7 1~{Q} (out), 8 GND (power) hidden to GND, 9 2~{Q} (out), 10 2Q (out), 11 2PR (in), 12 2CK (in), 13 2K (in), 14 2J (in), 15 2CLR (in), 16 VCC (power) hidden to VCC
1 alternate drawing of the same symbol

## 74F112
designator U?
Dual J-K Negative-Edge-Triggered Flip-Flop with Clear and Preset
footprint DIP-16
simulation model 74F112 (SIMCODE)
part A pins: 1 CK (in), 2 K (in), 3 J (in), 4 PR (in), 5 Q (out), 6 ~{Q} (out), 8 GND (power) hidden to GND, 15 CLR (in), 16 VCC (power) hidden to VCC
part B pins: 7 ~{Q} (out), 8 GND (power) hidden to GND, 9 Q (out), 10 PR (in), 11 J (in), 12 K (in), 13 CK (in), 14 CLR (in), 16 VCC (power) hidden to VCC
1 alternate drawing of the same symbol

## 74F112X2
designator U?
Dual J-K Negative-Edge-Triggered Flip-Flop with Clear and Preset
footprint DIP-16
simulation model 74F112X2 (SIMCODE)
pins: 1 1CK (in), 2 1K (in), 3 1J (in), 4 1PR (in), 5 1Q (out), 6 1~{Q} (out), 7 2~{Q} (out), 8 GND (power) hidden to GND, 9 2Q (out), 10 2PR (in), 11 2J (in), 12 2K (in), 13 2CK (in), 14 2CLR (in), 15 1CLR (in), 16 VCC (power) hidden to VCC
1 alternate drawing of the same symbol

## 74F113
designator U?
Dual J-K Negative-Edge-Triggered Flip-Flop with Preset
footprint DIP-14
simulation model 74F113 (SIMCODE)
part A pins: 1 CK (in), 2 K (in), 3 J (in), 4 PR (in), 5 Q (out), 6 ~{Q} (out), 7 GND (power) hidden to GND, 14 VCC (power) hidden to VCC
part B pins: 7 GND (power) hidden to GND, 8 ~{Q} (out), 9 Q (out), 10 PR (in), 11 J (in), 12 K (in), 13 CK (in), 14 VCC (power) hidden to VCC
1 alternate drawing of the same symbol

## 74F113X2
designator U?
Dual J-K Negative-Edge-Triggered Flip-Flop with Preset
footprint DIP-14
simulation model 74F113X2 (SIMCODE)
pins: 1 1CK (in), 2 1K (in), 3 1J (in), 4 1PR (in), 5 1Q (out), 6 1~{Q} (out), 7 GND (power) hidden to GND, 8 2~{Q} (out), 9 2Q (out), 10 2PR (in), 11 2J (in), 12 2K (in), 13 2CK (in), 14 VCC (power) hidden to VCC
1 alternate drawing of the same symbol

## 74F125
designator U?
Quad Bus Buffer Gate with 3-State Output
footprint DIP-14
simulation model 74F125 (SIMCODE)
part A pins: 1 ~{G} (in), 2 A (in), 3 Y (hiz), 7 GND (power) hidden to GND, 14 VCC (power) hidden to VCC
part B pins: 4 ~{G} (in), 5 A (in), 6 Y (hiz), 7 GND (power) hidden to GND, 14 VCC (power) hidden to VCC
part C pins: 7 GND (power) hidden to GND, 8 Y (hiz), 9 A (in), 10 ~{G} (in), 14 VCC (power) hidden to VCC
part D pins: 7 GND (power) hidden to GND, 11 Y (hiz), 12 A (in), 13 ~{G} (in), 14 VCC (power) hidden to VCC
1 alternate drawing of the same symbol

## 74F125X4
designator U?
Quad Bus Buffer Gate with 3-State Output
footprint DIP-14
simulation model 74F125X4 (SIMCODE)
pins: 1 1~{G} (in), 2 1A (in), 3 1Y (hiz), 4 2~{G} (in), 5 2A (in), 6 2Y (hiz), 7 GND (power) hidden to GND, 8 3Y (hiz), 9 3A (in), 10 3~{G} (in), 11 4Y (hiz), 12 4A (in), 13 4~{G} (in), 14 VCC (power) hidden to VCC
1 alternate drawing of the same symbol

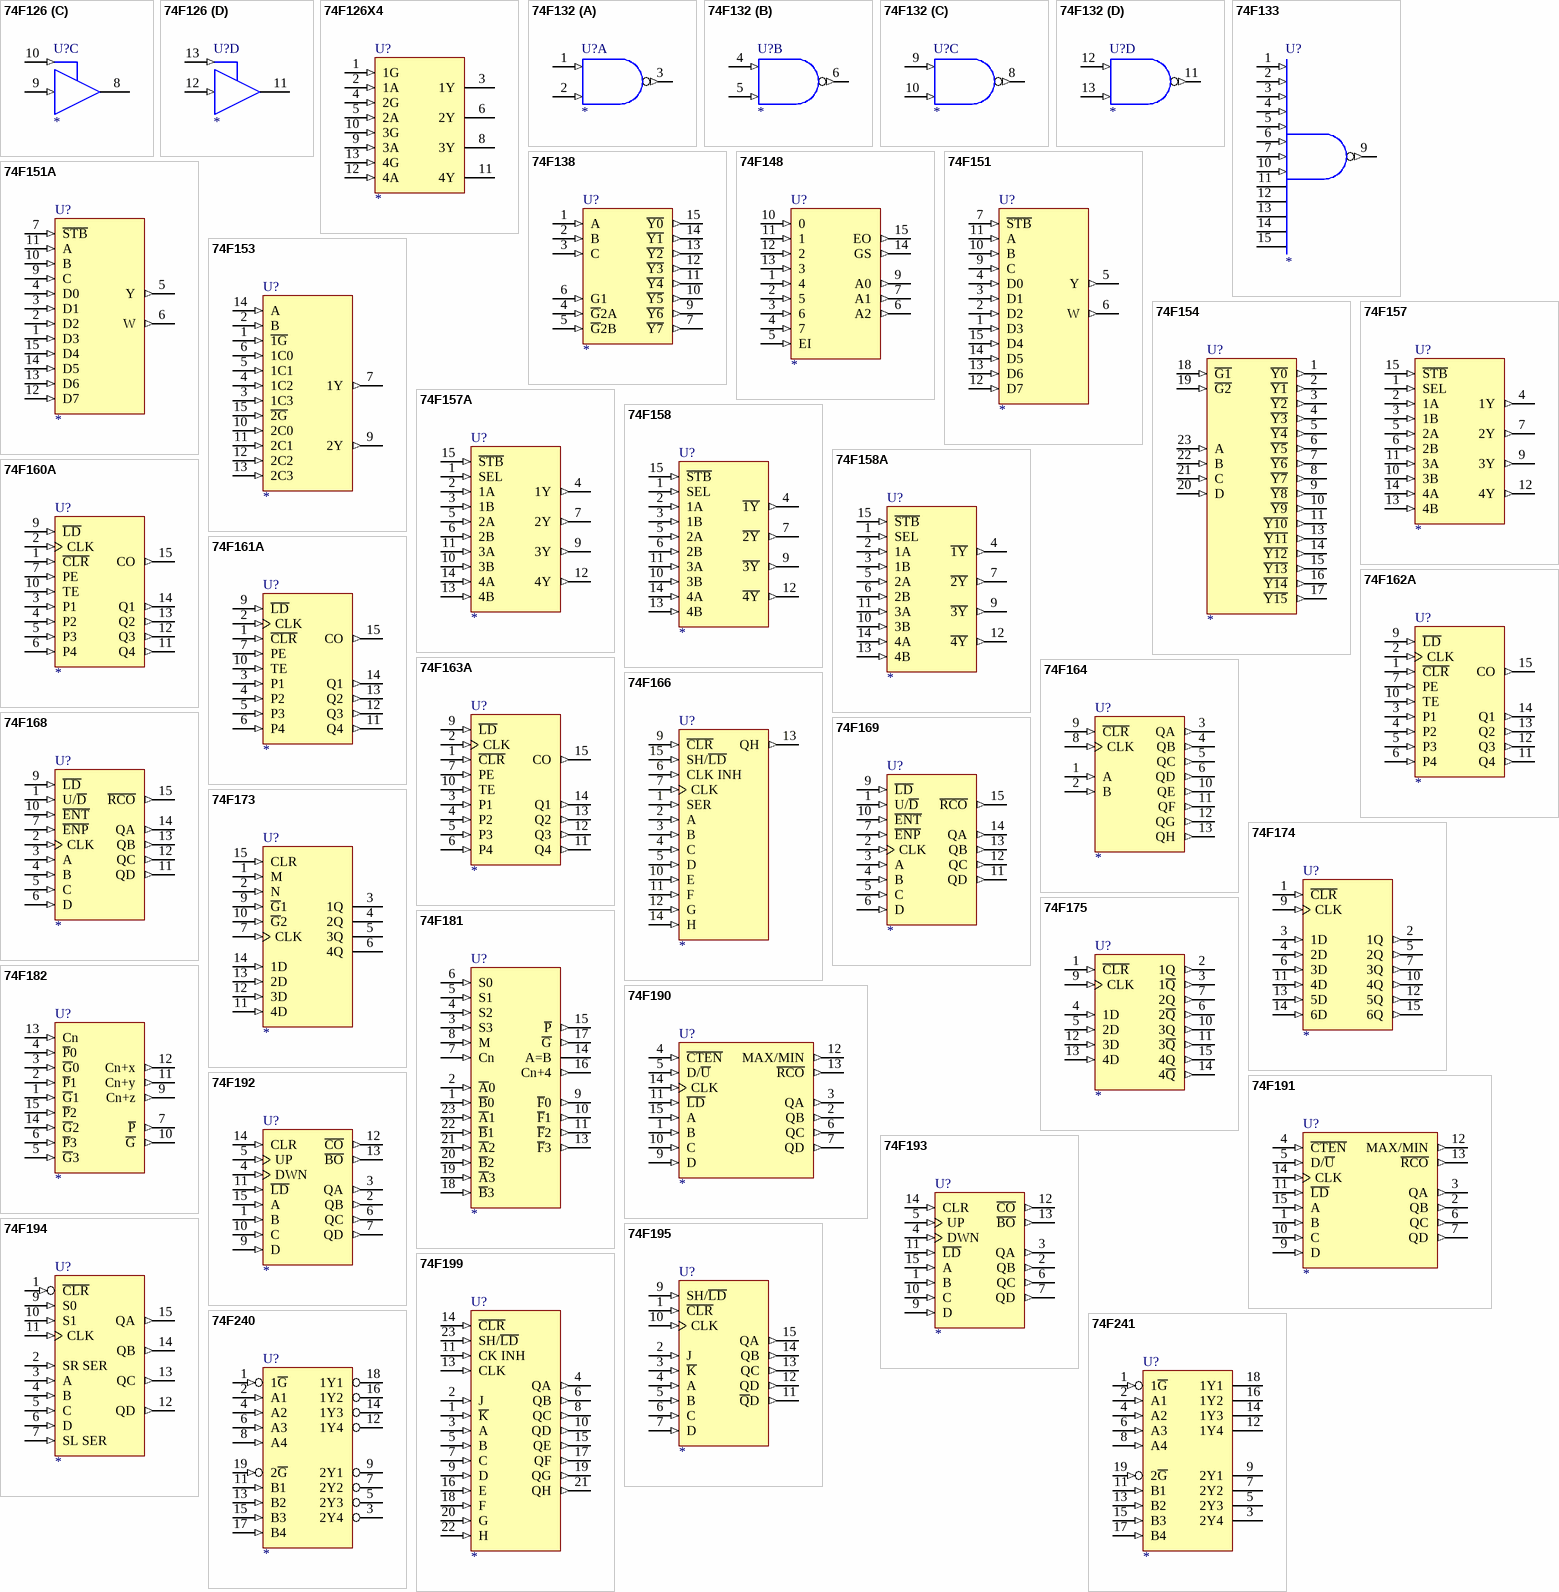
[diagram p22: symbols 74F126 to 74F241]

## 74F126
designator U?
Quad Bus Buffer Gate with 3-State Output
footprint DIP-14
simulation model 74F126 (SIMCODE)
part A pins: 1 G (in), 2 A (in), 3 Y (hiz), 7 GND (power) hidden to GND, 14 VCC (power) hidden to VCC
part B pins: 4 G (in), 5 A (in), 6 Y (hiz), 7 GND (power) hidden to GND, 14 VCC (power) hidden to VCC
part C pins: 7 GND (power) hidden to GND, 8 Y (hiz), 9 A (in), 10 G (in), 14 VCC (power) hidden to VCC
part D pins: 7 GND (power) hidden to GND, 11 Y (hiz), 12 A (in), 13 G (in), 14 VCC (power) hidden to VCC
1 alternate drawing of the same symbol

## 74F126X4
designator U?
Quad Bus Buffer Gate with 3-State Output
footprint DIP-14
simulation model 74F126X4 (SIMCODE)
pins: 1 1G (in), 2 1A (in), 3 1Y (hiz), 4 2G (in), 5 2A (in), 6 2Y (hiz), 7 GND (power) hidden to GND, 8 3Y (hiz), 9 3A (in), 10 3G (in), 11 4Y (hiz), 12 4A (in), 13 4G (in), 14 VCC (power) hidden to VCC
1 alternate drawing of the same symbol

## 74F132
designator U?
Quad Positive-NAND Gate with Schmitt-Trigger Input
footprint DIP-14
simulation model 74F132 (SIMCODE)
part A pins: 1 A (in), 2 B (in), 3 Y (out), 7 GND (power) hidden to GND, 14 VCC (power) hidden to VCC
part B pins: 4 A (in), 5 B (in), 6 Y (out), 7 GND (power) hidden to GND, 14 VCC (power) hidden to VCC
part C pins: 7 GND (power) hidden to GND, 8 Y (out), 9 A (in), 10 B (in), 14 VCC (power) hidden to VCC
part D pins: 7 GND (power) hidden to GND, 11 Y (out), 12 A (in), 13 B (in), 14 VCC (power) hidden to VCC
1 alternate drawing of the same symbol

## 74F133
designator U?
13-Input Positive-NAND Gate
footprint DIP-16
simulation model 74F133 (SIMCODE)
pins: 1 A (in), 2 B (in), 3 C (in), 4 D (in), 5 E (in), 6 F (in), 7 G (in), 8 GND (power) hidden to GND, 9 Y (out), 10 H (in), 11 I, 12 J, 13 K, 14 L, 15 M, 16 VCC (power) hidden to VCC
2 alternate drawings of the same symbol

## 74F138
designator U?
3-Line to 8-Line Decoder/Demultiplexer
footprint DIP-16
simulation model 74F138 (SIMCODE)
pins: 1 A (in), 2 B (in), 3 C (in), 4 ~{G}2A (in), 5 ~{G}2B (in), 6 G1 (in), 7 ~{Y7} (out), 8 GND (power) hidden to GND, 9 ~{Y6} (out), 10 ~{Y5} (out), 11 ~{Y4} (out), 12 ~{Y3} (out), 13 ~{Y2} (out), 14 ~{Y1} (out), 15 ~{Y0} (out), 16 VCC (power) hidden to VCC
1 alternate drawing of the same symbol

## 74F148
designator U?
8-Line to 3-Line Priority Encoder
footprint DIP-16
simulation model 74F148 (SIMCODE)
pins: 1 4 (in), 2 5 (in), 3 6 (in), 4 7 (in), 5 EI (in), 6 A2 (out), 7 A1 (out), 8 GND (power) hidden to GND, 9 A0 (out), 10 0 (in), 11 1 (in), 12 2 (in), 13 3 (in), 14 GS (out), 15 EO (out), 16 VCC (power) hidden to VCC
1 alternate drawing of the same symbol

## 74F151
designator U?
1 of 8 Data Selector/Multiplexer
footprint DIP-16
simulation model 74F151 (SIMCODE)
pins: 1 D3 (in), 2 D2 (in), 3 D1 (in), 4 D0 (in), 5 Y (out), 6 W (out), 7 ~{STB} (in), 8 GND (power) hidden to GND, 9 C (in), 10 B (in), 11 A (in), 12 D7 (in), 13 D6 (in), 14 D5 (in), 15 D4 (in), 16 VCC (power) hidden to VCC
1 alternate drawing of the same symbol

## 74F151A
designator U?
1 of 8 Data Selector/Multiplexer
footprint DIP-16
simulation model 74F151A (SIMCODE)
pins: 1 D3 (in), 2 D2 (in), 3 D1 (in), 4 D0 (in), 5 Y (out), 6 W (out), 7 ~{STB} (in), 8 GND (power) hidden to GND, 9 C (in), 10 B (in), 11 A (in), 12 D7 (in), 13 D6 (in), 14 D5 (in), 15 D4 (in), 16 VCC (power) hidden to VCC
1 alternate drawing of the same symbol

## 74F153
designator U?
Dual 4-Line to 1-Line Data Selector/Multiplexer
footprint DIP-16
simulation model 74F153 (SIMCODE)
pins: 1 ~{1G} (in), 2 B (in), 3 1C3 (in), 4 1C2 (in), 5 1C1 (in), 6 1C0 (in), 7 1Y (out), 8 GND (power) hidden to GND, 9 2Y (out), 10 2C0 (in), 11 2C1 (in), 12 2C2 (in), 13 2C3 (in), 14 A (in), 15 ~{2G} (in), 16 VCC (power) hidden to VCC
1 alternate drawing of the same symbol

## 74F154
designator U?
4-Line to 16-Line Decoder/Demultiplexer
footprint DIP-24
simulation model 74F154 (SIMCODE)
pins: 1 ~{Y0} (out), 2 ~{Y1} (out), 3 ~{Y2} (out), 4 ~{Y3} (out), 5 ~{Y4} (out), 6 ~{Y5} (out), 7 ~{Y6} (out), 8 ~{Y7} (out), 9 ~{Y8} (out), 10 ~{Y9} (out), 11 ~{Y10} (out), 12 GND (power) hidden to GND, 13 ~{Y11} (out), 14 ~{Y12} (out), 15 ~{Y13} (out), 16 ~{Y14} (out), 17 ~{Y15} (out), 18 ~{G1} (in), 19 ~{G2} (in), 20 D (in), 21 C (in), 22 B (in), 23 A (in), 24 VCC (power) hidden to VCC
1 alternate drawing of the same symbol

## 74F157
designator U?
Quad 2-Line to 1-Line Data Selector/Multiplexer
footprint DIP-16
simulation model 74F157 (SIMCODE)
pins: 1 SEL (in), 2 1A (in), 3 1B (in), 4 1Y (out), 5 2A (in), 6 2B (in), 7 2Y (out), 8 GND (power) hidden to GND, 9 3Y (out), 10 3B (in), 11 3A (in), 12 4Y (out), 13 4B (in), 14 4A (in), 15 ~{STB} (in), 16 VCC (power) hidden to VCC
1 alternate drawing of the same symbol

## 74F157A
designator U?
Quad 2-Line to 1-Line Data Selector/Multiplexer
footprint DIP-16
simulation model 74F157A (SIMCODE)
pins: 1 SEL (in), 2 1A (in), 3 1B (in), 4 1Y (out), 5 2A (in), 6 2B (in), 7 2Y (out), 8 GND (power) hidden to GND, 9 3Y (out), 10 3B (in), 11 3A (in), 12 4Y (out), 13 4B (in), 14 4A (in), 15 ~{STB} (in), 16 VCC (power) hidden to VCC
1 alternate drawing of the same symbol

## 74F158
designator U?
Quad 2-Line to 1-Line Data Selector/Multiplexer
footprint DIP-16
simulation model 74F158 (SIMCODE)
pins: 1 SEL (in), 2 1A (in), 3 1B (in), 4 ~{1Y} (out), 5 2A (in), 6 2B (in), 7 ~{2Y} (out), 8 GND (power) hidden to GND, 9 ~{3Y} (out), 10 3B (in), 11 3A (in), 12 ~{4Y} (out), 13 4B (in), 14 4A (in), 15 ~{STB} (in), 16 VCC (power) hidden to VCC
1 alternate drawing of the same symbol

## 74F158A
designator U?
Quad 2-Line to 1-Line Data Selector/Multiplexer
footprint DIP-16
simulation model 74F158A (SIMCODE)
pins: 1 SEL (in), 2 1A (in), 3 1B (in), 4 ~{1Y} (out), 5 2A (in), 6 2B (in), 7 ~{2Y} (out), 8 GND (power) hidden to GND, 9 ~{3Y} (out), 10 3B (in), 11 3A (in), 12 ~{4Y} (out), 13 4B (in), 14 4A (in), 15 ~{STB} (in), 16 VCC (power) hidden to VCC
1 alternate drawing of the same symbol

## 74F160A
designator U?
Synchronous 4-Bit Decade Counter with Direct Clear
footprint DIP-16
simulation model 74F160A (SIMCODE)
pins: 1 ~{CLR} (in), 2 CLK (in), 3 P1 (in), 4 P2 (in), 5 P3 (in), 6 P4 (in), 7 PE (in), 8 GND (power) hidden to GND, 9 ~{LD} (in), 10 TE (in), 11 Q4 (out), 12 Q3 (out), 13 Q2 (out), 14 Q1 (out), 15 CO (out), 16 VCC (power) hidden to VCC
1 alternate drawing of the same symbol

## 74F161A
designator U?
Synchronous 4-Bit Binary Counter with Direct Clear
footprint DIP-16
simulation model 74F161A (SIMCODE)
pins: 1 ~{CLR} (in), 2 CLK (in), 3 P1 (in), 4 P2 (in), 5 P3 (in), 6 P4 (in), 7 PE (in), 8 GND (power) hidden to GND, 9 ~{LD} (in), 10 TE (in), 11 Q4 (out), 12 Q3 (out), 13 Q2 (out), 14 Q1 (out), 15 CO (out), 16 VCC (power) hidden to VCC
1 alternate drawing of the same symbol

## 74F162A
designator U?
Fully Synchronous 4-Bit Decade Counter
footprint DIP-16
simulation model 74F162A (SIMCODE)
pins: 1 ~{CLR} (in), 2 CLK (in), 3 P1 (in), 4 P2 (in), 5 P3 (in), 6 P4 (in), 7 PE (in), 8 GND (power) hidden to GND, 9 ~{LD} (in), 10 TE (in), 11 Q4 (out), 12 Q3 (out), 13 Q2 (out), 14 Q1 (out), 15 CO (out), 16 VCC (power) hidden to VCC
1 alternate drawing of the same symbol

## 74F163A
designator U?
Fully Synchronous 4-Bit Binary Counter
footprint DIP-16
simulation model 74F163A (SIMCODE)
pins: 1 ~{CLR} (in), 2 CLK (in), 3 P1 (in), 4 P2 (in), 5 P3 (in), 6 P4 (in), 7 PE (in), 8 GND (power) hidden to GND, 9 ~{LD} (in), 10 TE (in), 11 Q4 (out), 12 Q3 (out), 13 Q2 (out), 14 Q1 (out), 15 CO (out), 16 VCC (power) hidden to VCC
1 alternate drawing of the same symbol

## 74F164
designator U?
8-Bit Parallel-Out Serial Shift Register
footprint DIP-14
simulation model 74F164 (SIMCODE)
pins: 1 A (in), 2 B (in), 3 QA (out), 4 QB (out), 5 QC (out), 6 QD (out), 7 GND (power) hidden to GND, 8 CLK (in), 9 ~{CLR} (in), 10 QE (out), 11 QF (out), 12 QG (out), 13 QH (out), 14 VCC (power) hidden to VCC
1 alternate drawing of the same symbol

## 74F166
designator U?
Parallel-Load 8-Bit Shift Register
footprint DIP-16
simulation model 74F166 (SIMCODE)
pins: 1 SER (in), 2 A (in), 3 B (in), 4 C (in), 5 D (in), 6 CLK INH (in), 7 CLK (in), 8 GND (power) hidden to GND, 9 ~{CLR} (in), 10 E (in), 11 F (in), 12 G (in), 13 QH (out), 14 H (in), 15 SH/~{LD} (in), 16 VCC (power) hidden to VCC
1 alternate drawing of the same symbol

## 74F168
designator U?
Synchronous 4-Bit Up/Down Decade Counter
footprint DIP-16
simulation model 74F168 (SIMCODE)
pins: 1 U/~{D} (in), 2 CLK (in), 3 A (in), 4 B (in), 5 C (in), 6 D (in), 7 ~{ENP} (in), 8 GND (power) hidden to GND, 9 ~{LD} (in), 10 ~{ENT} (in), 11 QD (out), 12 QC (out), 13 QB (out), 14 QA (out), 15 ~{RCO} (out), 16 VCC (power) hidden to VCC
1 alternate drawing of the same symbol

## 74F169
designator U?
Synchronous 4-Bit Up/Down Decade Counter
footprint DIP-16
simulation model 74F169 (SIMCODE)
pins: 1 U/~{D} (in), 2 CLK (in), 3 A (in), 4 B (in), 5 C (in), 6 D (in), 7 ~{ENP} (in), 8 GND (power) hidden to GND, 9 ~{LD} (in), 10 ~{ENT} (in), 11 QD (out), 12 QC (out), 13 QB (out), 14 QA (out), 15 ~{RCO} (out), 16 VCC (power) hidden to VCC
1 alternate drawing of the same symbol

## 74F173
designator U?
4-Bit D-Type Register with 3-State Outputs
footprint DIP-16
simulation model 74F173 (SIMCODE)
pins: 1 M (in), 2 N (in), 3 1Q (hiz), 4 2Q (hiz), 5 3Q (hiz), 6 4Q (hiz), 7 CLK (in), 8 GND (power) hidden to GND, 9 ~{G}1 (in), 10 ~{G}2 (in), 11 4D (in), 12 3D (in), 13 2D (in), 14 1D (in), 15 CLR (in), 16 VCC (power) hidden to VCC
1 alternate drawing of the same symbol

## 74F174
designator U?
Hex D-Type Flip-Flop with Clear
footprint DIP-16
simulation model 74F174 (SIMCODE)
pins: 1 ~{CLR} (in), 2 1Q (out), 3 1D (in), 4 2D (in), 5 2Q (out), 6 3D (in), 7 3Q (out), 8 GND (power) hidden to GND, 9 CLK (in), 10 4Q (out), 11 4D (in), 12 5Q (out), 13 5D (in), 14 6D (in), 15 6Q (out), 16 VCC (power) hidden to VCC
1 alternate drawing of the same symbol

## 74F175
designator U?
Quad D-Type Flip-Flop with Clear
footprint DIP-16
simulation model 74F175 (SIMCODE)
pins: 1 ~{CLR} (in), 2 1Q (out), 3 1~{Q} (out), 4 1D (in), 5 2D (in), 6 2~{Q} (out), 7 2Q (out), 8 GND (power) hidden to GND, 9 CLK (in), 10 3Q (out), 11 3~{Q} (out), 12 3D (in), 13 4D (in), 14 4~{Q} (out), 15 4Q (out), 16 VCC (power) hidden to VCC
1 alternate drawing of the same symbol

## 74F181
designator U?
Arithmetic Logic Unit/Function Generator
footprint DIP-24
simulation model 74F181 (SIMCODE)
pins: 1 ~{B}0 (in), 2 ~{A}0 (in), 3 S3 (in), 4 S2 (in), 5 S1 (in), 6 S0 (in), 7 Cn (in), 8 M (in), 9 ~{F}0 (out), 10 ~{F}1 (out), 11 ~{F}2 (out), 12 GND (power) hidden to GND, 13 ~{F}3 (out), 14 A=B (oc), 15 ~{P} (out), 16 Cn+4 (out), 17 ~{G} (out), 18 ~{B}3 (in), 19 ~{A}3 (in), 20 ~{B}2 (in), 21 ~{A}2 (in), 22 ~{B}1 (in), 23 ~{A}1 (in), 24 VCC (power) hidden to VCC
1 alternate drawing of the same symbol

## 74F182
designator U?
Look-Ahead Carry Generator
footprint DIP-16
simulation model 74F182 (SIMCODE)
pins: 1 ~{G}1 (in), 2 ~{P}1 (in), 3 ~{G}0 (in), 4 ~{P}0 (in), 5 ~{G}3 (in), 6 ~{P}3 (in), 7 ~{P} (out), 8 GND (power) hidden to GND, 9 Cn+z (out), 10 ~{G} (out), 11 Cn+y (out), 12 Cn+x (out), 13 Cn (in), 14 ~{G}2 (in), 15 ~{P}2 (in), 16 VCC (power) hidden to VCC
1 alternate drawing of the same symbol

## 74F190
designator U?
Synchronous 4-Bit Up/Down Decade Counter with Down/Up Mode Control
footprint DIP-16
simulation model 74F190 (SIMCODE)
pins: 1 B (in), 2 QB (out), 3 QA (out), 4 ~{CTEN} (in), 5 D/~{U} (in), 6 QC (out), 7 QD (out), 8 GND (power) hidden to GND, 9 D (in), 10 C (in), 11 ~{LD} (in), 12 MAX/MIN (out), 13 ~{RCO} (out), 14 CLK (in), 15 A (in), 16 VCC (power) hidden to VCC
1 alternate drawing of the same symbol

## 74F191
designator U?
Synchronous 4-Bit Up/Down Binary Counter with Down/Up Mode Control
footprint DIP-16
simulation model 74F191 (SIMCODE)
pins: 1 B (in), 2 QB (out), 3 QA (out), 4 ~{CTEN} (in), 5 D/~{U} (in), 6 QC (out), 7 QD (out), 8 GND (power) hidden to GND, 9 D (in), 10 C (in), 11 ~{LD} (in), 12 MAX/MIN (out), 13 ~{RCO} (out), 14 CLK (in), 15 A (in), 16 VCC (power) hidden to VCC
1 alternate drawing of the same symbol

## 74F192
designator U?
Synchronous 4-Bit Up/Down Decade Counter (Dual Clock with Clear)
footprint DIP-16
simulation model 74F192 (SIMCODE)
pins: 1 B (in), 2 QB (out), 3 QA (out), 4 DWN (in), 5 UP (in), 6 QC (out), 7 QD (out), 8 GND (power) hidden to GND, 9 D (in), 10 C (in), 11 ~{LD} (in), 12 ~{CO} (out), 13 ~{BO} (out), 14 CLR (in), 15 A (in), 16 VCC (power) hidden to VCC
1 alternate drawing of the same symbol

## 74F193
designator U?
Synchronous 4-Bit Up/Down Binary Counter (Dual Clock with Clear)
footprint DIP-16
simulation model 74F193 (SIMCODE)
pins: 1 B (in), 2 QB (out), 3 QA (out), 4 DWN (in), 5 UP (in), 6 QC (out), 7 QD (out), 8 GND (power) hidden to GND, 9 D (in), 10 C (in), 11 ~{LD} (in), 12 ~{CO} (out), 13 ~{BO} (out), 14 CLR (in), 15 A (in), 16 VCC (power) hidden to VCC
1 alternate drawing of the same symbol

## 74F194
designator U?
4-Bit Bidirectional Universal Shift Register
footprint DIP-16
simulation model 74F194 (SIMCODE)
pins: 1 ~{CLR} (in), 2 SR SER (in), 3 A (in), 4 B (in), 5 C (in), 6 D (in), 7 SL SER (in), 8 GND (power) hidden to GND, 9 S0 (in), 10 S1 (in), 11 CLK (in), 12 QD (out), 13 QC (out), 14 QB (out), 15 QA (out), 16 VCC (power) hidden to VCC
1 alternate drawing of the same symbol

## 74F195
designator U?
4-Bit Parallel-Access Shift Register
footprint DIP-16
simulation model 74F195 (SIMCODE)
pins: 1 ~{CLR} (in), 2 J (in), 3 ~{K} (in), 4 A (in), 5 B (in), 6 C (in), 7 D (in), 8 GND (power) hidden to GND, 9 SH/~{LD} (in), 10 CLK (in), 11 ~{Q}D (out), 12 QD (out), 13 QC (out), 14 QB (out), 15 QA (out), 16 VCC (power) hidden to VCC
1 alternate drawing of the same symbol

## 74F199
designator U?
8-Bit Shift Register
footprint DIP-24
simulation model 74F199 (SIMCODE)
pins: 1 ~{K} (in), 2 J (in), 3 A (in), 4 QA (out), 5 B (in), 6 QB (out), 7 C (in), 8 QC (out), 9 D (in), 10 QD (out), 11 CK INH (in), 12 GND (power) hidden to GND, 13 CLK (in), 14 ~{CLR} (in), 15 QE (out), 16 E (in), 17 QF (out), 18 F (in), 19 QG (out), 20 G (in), 21 QH (out), 22 H (in), 23 SH/~{LD} (in), 24 VCC (power) hidden to VCC
1 alternate drawing of the same symbol

## 74F240
designator U?
Octal Buffer and Line Driver with 3-State Output
footprint DIP-20
simulation model 74F240 (SIMCODE)
pins: 1 1~{G} (in), 2 A1 (in), 3 2Y4 (hiz), 4 A2 (in), 5 2Y3 (hiz), 6 A3 (in), 7 2Y2 (hiz), 8 A4 (in), 9 2Y1 (hiz), 10 GND (power) hidden to GND, 11 B1 (in), 12 1Y4 (hiz), 13 B2 (in), 14 1Y3 (hiz), 15 B3 (in), 16 1Y2 (hiz), 17 B4 (in), 18 1Y1 (hiz), 19 2~{G} (in), 20 VCC (power) hidden to VCC
1 alternate drawing of the same symbol

## 74F241
designator U?
Octal Buffer and Line Driver with 3-State Output
footprint DIP-20
simulation model 74F241 (SIMCODE)
pins: 1 1~{G} (in), 2 A1 (in), 3 2Y4 (hiz), 4 A2 (in), 5 2Y3 (hiz), 6 A3 (in), 7 2Y2 (hiz), 8 A4 (in), 9 2Y1 (hiz), 10 GND (power) hidden to GND, 11 B1 (in), 12 1Y4 (hiz), 13 B2 (in), 14 1Y3 (hiz), 15 B3 (in), 16 1Y2 (hiz), 17 B4 (in), 18 1Y1 (hiz), 19 2~{G} (in), 20 VCC (power) hidden to VCC
1 alternate drawing of the same symbol

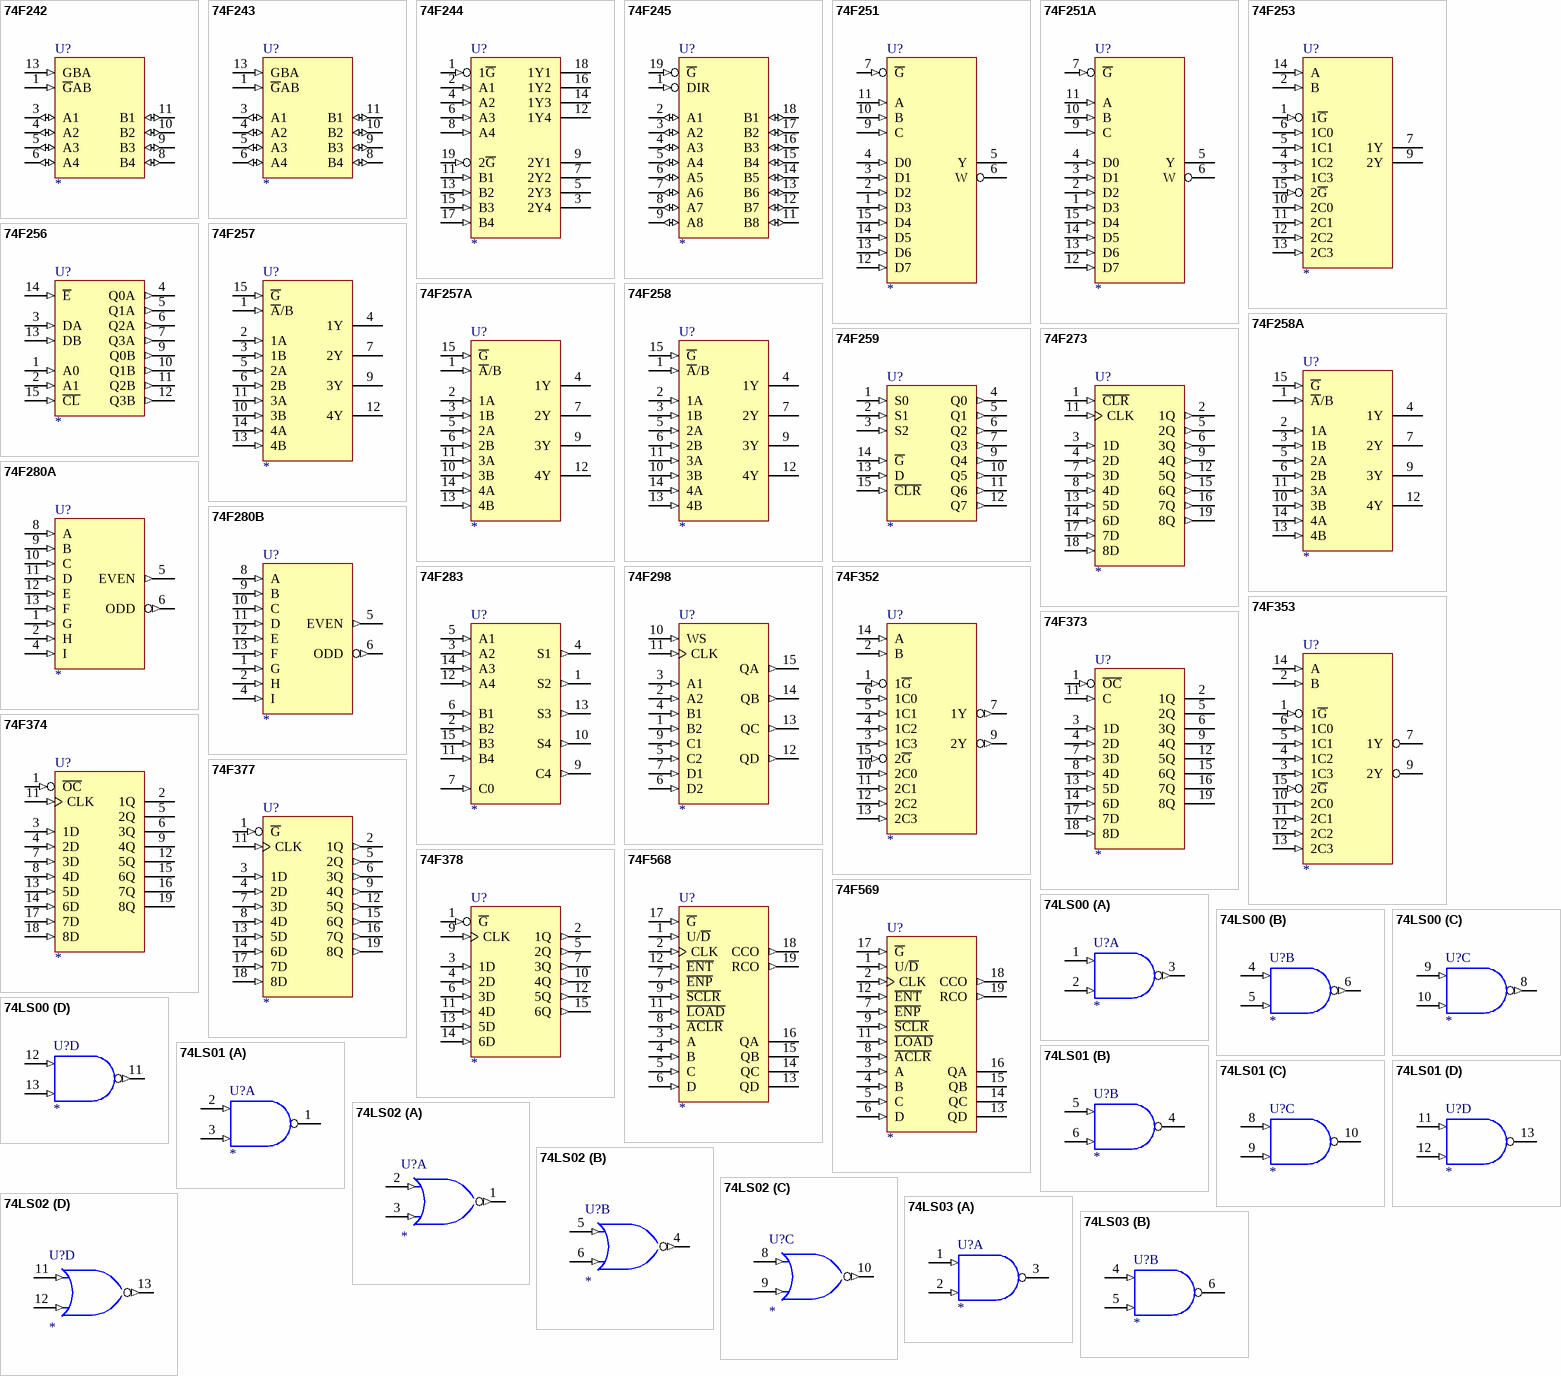
[diagram p23: symbols 74F242 to 74LS03]

## 74F242
designator U?
Quad Bus Transceiver
footprint DIP-14
simulation model 74F242 (SIMCODE)
pins: 1 ~{G}AB (in), 3 A1 (io), 4 A2 (io), 5 A3 (io), 6 A4 (io), 7 GND (power) hidden to GND, 8 B4 (io), 9 B3 (io), 10 B2 (io), 11 B1 (io), 13 GBA (in), 14 VCC (power) hidden to VCC
1 alternate drawing of the same symbol

## 74F243
designator U?
Quad Bus Transceiver
footprint DIP-14
simulation model 74F243 (SIMCODE)
pins: 1 ~{G}AB (in), 3 A1 (io), 4 A2 (io), 5 A3 (io), 6 A4 (io), 7 GND (power) hidden to GND, 8 B4 (io), 9 B3 (io), 10 B2 (io), 11 B1 (io), 13 GBA (in), 14 VCC (power) hidden to VCC
1 alternate drawing of the same symbol

## 74F244
designator U?
Octal Buffer and Line Driver with 3-State Output
footprint DIP-20
simulation model 74F244 (SIMCODE)
pins: 1 1~{G} (in), 2 A1 (in), 3 2Y4 (hiz), 4 A2 (in), 5 2Y3 (hiz), 6 A3 (in), 7 2Y2 (hiz), 8 A4 (in), 9 2Y1 (hiz), 10 GND (power) hidden to GND, 11 B1 (in), 12 1Y4 (hiz), 13 B2 (in), 14 1Y3 (hiz), 15 B3 (in), 16 1Y2 (hiz), 17 B4 (in), 18 1Y1 (hiz), 19 2~{G} (in), 20 VCC (power) hidden to VCC
1 alternate drawing of the same symbol

## 74F245
designator U?
Octal Bus Transceiver with 3-State Output
footprint DIP-20
simulation model 74F245 (SIMCODE)
pins: 1 DIR (in), 2 A1 (io), 3 A2 (io), 4 A3 (io), 5 A4 (io), 6 A5 (io), 7 A6 (io), 8 A7 (io), 9 A8 (io), 10 GND (power) hidden to GND, 11 B8 (io), 12 B7 (io), 13 B6 (io), 14 B5 (io), 15 B4 (io), 16 B3 (io), 17 B2 (io), 18 B1 (io), 19 ~{G} (in), 20 VCC (power) hidden to VCC
1 alternate drawing of the same symbol

## 74F251
designator U?
1-of-8 Data Selectors/Multiplexers with 3-State Output
footprint DIP-16
simulation model 74F251 (SIMCODE)
pins: 1 D3 (in), 2 D2 (in), 3 D1 (in), 4 D0 (in), 5 Y (hiz), 6 W (hiz), 7 ~{G} (in), 8 GND (power) hidden to GND, 9 C (in), 10 B (in), 11 A (in), 12 D7 (in), 13 D6 (in), 14 D5 (in), 15 D4 (in), 16 VCC (power) hidden to VCC
1 alternate drawing of the same symbol

## 74F251A
designator U?
1-of-8 Data Selectors/Multiplexers with 3-State Output
footprint DIP-16
simulation model 74F251A (SIMCODE)
pins: 1 D3 (in), 2 D2 (in), 3 D1 (in), 4 D0 (in), 5 Y (hiz), 6 W (hiz), 7 ~{G} (in), 8 GND (power) hidden to GND, 9 C (in), 10 B (in), 11 A (in), 12 D7 (in), 13 D6 (in), 14 D5 (in), 15 D4 (in), 16 VCC (power) hidden to VCC
1 alternate drawing of the same symbol

## 74F253
designator U?
Dual 4-Line to 1-Line Data Selector/Multiplexer with 3-State Output
footprint DIP-16
simulation model 74F253 (SIMCODE)
pins: 1 1~{G} (in), 2 B (in), 3 1C3 (in), 4 1C2 (in), 5 1C1 (in), 6 1C0 (in), 7 1Y (hiz), 8 GND (power) hidden to GND, 9 2Y (hiz), 10 2C0 (in), 11 2C1 (in), 12 2C2 (in), 13 2C3 (in), 14 A (in), 15 2~{G} (in), 16 VCC (power) hidden to VCC
1 alternate drawing of the same symbol

## 74F256
designator U?
Dual 4-Bit Addressable Latch
footprint DIP-16
simulation model 74F256 (SIMCODE)
pins: 1 A0 (in), 2 A1 (in), 3 DA (in), 4 Q0A (out), 5 Q1A (out), 6 Q2A (out), 7 Q3A (out), 8 GND (power) hidden to GND, 9 Q0B (out), 10 Q1B (out), 11 Q2B (out), 12 Q3B (out), 13 DB (in), 14 ~{E} (in), 15 ~{CL} (in), 16 VCC (power) hidden to VCC

## 74F257
designator U?
Quad 2-Line to 1-Line Data/Selector/Multiplexer with 3-State Output
footprint DIP-16
simulation model 74F257 (SIMCODE)
pins: 1 ~{A}/B (in), 2 1A (in), 3 1B (in), 4 1Y (hiz), 5 2A (in), 6 2B (in), 7 2Y (hiz), 8 GND (power) hidden to GND, 9 3Y (hiz), 10 3B (in), 11 3A (in), 12 4Y (hiz), 13 4B (in), 14 4A (in), 15 ~{G} (in), 16 VCC (power) hidden to VCC
1 alternate drawing of the same symbol

## 74F257A
designator U?
Quad 2-Line to 1-Line Data/Selector/Multiplexer with 3-State Output
footprint DIP-16
simulation model 74F257A (SIMCODE)
pins: 1 ~{A}/B (in), 2 1A (in), 3 1B (in), 4 1Y (hiz), 5 2A (in), 6 2B (in), 7 2Y (hiz), 8 GND (power) hidden to GND, 9 3Y (hiz), 10 3B (in), 11 3A (in), 12 4Y (hiz), 13 4B (in), 14 4A (in), 15 ~{G} (in), 16 VCC (power) hidden to VCC
1 alternate drawing of the same symbol

## 74F258
designator U?
Quad 2-Line to 1-Line Data/Selector/Multiplexer with 3-State Output
footprint DIP-16
simulation model 74F258 (SIMCODE)
pins: 1 ~{A}/B (in), 2 1A (in), 3 1B (in), 4 1Y (hiz), 5 2A (in), 6 2B (in), 7 2Y (hiz), 8 GND (power) hidden to GND, 9 3Y (hiz), 10 3B (in), 11 3A (in), 12 4Y (hiz), 13 4B (in), 14 4A (in), 15 ~{G} (in), 16 VCC (power) hidden to VCC
1 alternate drawing of the same symbol

## 74F258A
designator U?
Quad 2-Line to 1-Line Data/Selector/Multiplexer with 3-State Output
footprint DIP-16
simulation model 74F258A (SIMCODE)
pins: 1 ~{A}/B (in), 2 1A (in), 3 1B (in), 4 1Y (hiz), 5 2A (in), 6 2B (in), 7 2Y (hiz), 8 GND (power) hidden to GND, 9 3Y (hiz), 10 3B (in), 11 3A (in), 12 4Y (hiz), 13 4B (in), 14 4A (in), 15 ~{G} (in), 16 VCC (power) hidden to VCC
1 alternate drawing of the same symbol

## 74F259
designator U?
8-Bit Addressable Latch
footprint DIP-16
simulation model 74F259 (SIMCODE)
pins: 1 S0 (in), 2 S1 (in), 3 S2 (in), 4 Q0 (out), 5 Q1 (out), 6 Q2 (out), 7 Q3 (out), 8 GND (power) hidden to GND, 9 Q4 (out), 10 Q5 (out), 11 Q6 (out), 12 Q7 (out), 13 D (in), 14 ~{G} (in), 15 ~{CLR} (in), 16 VCC (power) hidden to VCC
1 alternate drawing of the same symbol

## 74F273
designator U?
Octal D-Type Flip-Flop with Clear
footprint DIP-20
simulation model 74F273 (SIMCODE)
pins: 1 ~{CLR} (in), 2 1Q (out), 3 1D (in), 4 2D (in), 5 2Q (out), 6 3Q (out), 7 3D (in), 8 4D (in), 9 4Q (out), 10 GND (power) hidden to GND, 11 CLK (in), 12 5Q (out), 13 5D (in), 14 6D (in), 15 6Q (out), 16 7Q (out), 17 7D (in), 18 8D (in), 19 8Q (out), 20 VCC (power) hidden to VCC
1 alternate drawing of the same symbol

## 74F280A
designator U?
9-Bit Odd/Even Parity Generator/Checker
footprint DIP-14
simulation model 74F280A (SIMCODE)
pins: 1 G (in), 2 H (in), 4 I (in), 5 EVEN (out), 6 ODD (out), 7 GND (power) hidden to GND, 8 A (in), 9 B (in), 10 C (in), 11 D (in), 12 E (in), 13 F (in), 14 VCC (power) hidden to VCC
1 alternate drawing of the same symbol

## 74F280B
designator U?
9-Bit Odd/Even Parity Generator/Checker
footprint DIP-14
simulation model 74F280B (SIMCODE)
pins: 1 G (in), 2 H (in), 4 I (in), 5 EVEN (out), 6 ODD (out), 7 GND (power) hidden to GND, 8 A (in), 9 B (in), 10 C (in), 11 D (in), 12 E (in), 13 F (in), 14 VCC (power) hidden to VCC
1 alternate drawing of the same symbol

## 74F283
designator U?
4-Bit Binary Full Adder with Fast Carry
footprint DIP-16
simulation model 74F283 (SIMCODE)
pins: 1 S2 (out), 2 B2 (in), 3 A2 (in), 4 S1 (out), 5 A1 (in), 6 B1 (in), 7 C0 (in), 8 GND (power) hidden to GND, 9 C4 (out), 10 S4 (out), 11 B4 (in), 12 A4 (in), 13 S3 (out), 14 A3 (in), 15 B3 (in), 16 VCC (power) hidden to VCC
1 alternate drawing of the same symbol

## 74F298
designator U?
Quad 2-Input Multiplexer with Storage
footprint DIP-16
simulation model 74F298 (SIMCODE)
pins: 1 B2 (in), 2 A2 (in), 3 A1 (in), 4 B1 (in), 5 C2 (in), 6 D2 (in), 7 D1 (in), 8 GND (power) hidden to GND, 9 C1 (in), 10 WS (in), 11 CLK (in), 12 QD (out), 13 QC (out), 14 QB (out), 15 QA (out), 16 VCC (power) hidden to VCC
1 alternate drawing of the same symbol

## 74F352
designator U?
Dual 4-Line to 1-Line Data Selector/Multiplexer
footprint DIP-16
simulation model 74F352 (SIMCODE)
pins: 1 1~{G} (in), 2 B (in), 3 1C3 (in), 4 1C2 (in), 5 1C1 (in), 6 1C0 (in), 7 1Y (out), 8 GND (power) hidden to GND, 9 2Y (out), 10 2C0 (in), 11 2C1 (in), 12 2C2 (in), 13 2C3 (in), 14 A (in), 15 2~{G} (in), 16 VCC (power) hidden to VCC
1 alternate drawing of the same symbol

## 74F353
designator U?
Dual 4-Line to 1-Line Data Selector/Multiplexer with 3-State Output
footprint DIP-16
simulation model 74F353 (SIMCODE)
pins: 1 1~{G} (in), 2 B (in), 3 1C3 (in), 4 1C2 (in), 5 1C1 (in), 6 1C0 (in), 7 1Y (hiz), 8 GND (power) hidden to GND, 9 2Y (hiz), 10 2C0 (in), 11 2C1 (in), 12 2C2 (in), 13 2C3 (in), 14 A (in), 15 2~{G} (in), 16 VCC (power) hidden to VCC
1 alternate drawing of the same symbol

## 74F373
designator U?
Octal D-Type Transparent Latch with 3-State Output
footprint DIP-20
simulation model 74F373 (SIMCODE)
pins: 1 ~{OC} (in), 2 1Q (hiz), 3 1D (in), 4 2D (in), 5 2Q (hiz), 6 3Q (hiz), 7 3D (in), 8 4D (in), 9 4Q (hiz), 10 GND (power) hidden to GND, 11 C (in), 12 5Q (hiz), 13 5D (in), 14 6D (in), 15 6Q (hiz), 16 7Q (hiz), 17 7D (in), 18 8D (in), 19 8Q (hiz), 20 VCC (power) hidden to VCC
1 alternate drawing of the same symbol

## 74F374
designator U?
Octal D-Type Edge-Triggered Flip-Flop with 3-State Output
footprint DIP-20
simulation model 74F374 (SIMCODE)
pins: 1 ~{OC} (in), 2 1Q (hiz), 3 1D (in), 4 2D (in), 5 2Q (hiz), 6 3Q (hiz), 7 3D (in), 8 4D (in), 9 4Q (hiz), 10 GND (power) hidden to GND, 11 CLK (in), 12 5Q (hiz), 13 5D (in), 14 6D (in), 15 6Q (hiz), 16 7Q (hiz), 17 7D (in), 18 8D (in), 19 8Q (hiz), 20 VCC (power) hidden to VCC
1 alternate drawing of the same symbol

## 74F377
designator U?
Octal D-Type Flip-Flop with Enable
footprint DIP-20
simulation model 74F377 (SIMCODE)
pins: 1 ~{G} (in), 2 1Q (out), 3 1D (in), 4 2D (in), 5 2Q (out), 6 3Q (out), 7 3D (in), 8 4D (in), 9 4Q (out), 10 GND (power) hidden to GND, 11 CLK (in), 12 5Q (out), 13 5D (in), 14 6D (in), 15 6Q (out), 16 7Q (out), 17 7D (in), 18 8D (in), 19 8Q (out), 20 VCC (power) hidden to VCC
1 alternate drawing of the same symbol

## 74F378
designator U?
Hex D-Type Flip Flop with Enable
footprint DIP-16
simulation model 74F378 (SIMCODE)
pins: 1 ~{G} (in), 2 1Q (out), 3 1D (in), 4 2D (in), 5 2Q (out), 6 3D (in), 7 3Q (out), 8 GND (power) hidden to GND, 9 CLK (in), 10 4Q (out), 11 4D (in), 12 5Q (out), 13 5D (in), 14 6D (in), 15 6Q (out), 16 VCC (power) hidden to VCC
1 alternate drawing of the same symbol